# Altium integrated library ST Memory EPROM 1-16 Mbit.IntLib: 1093 symbols (part 17 of 19)
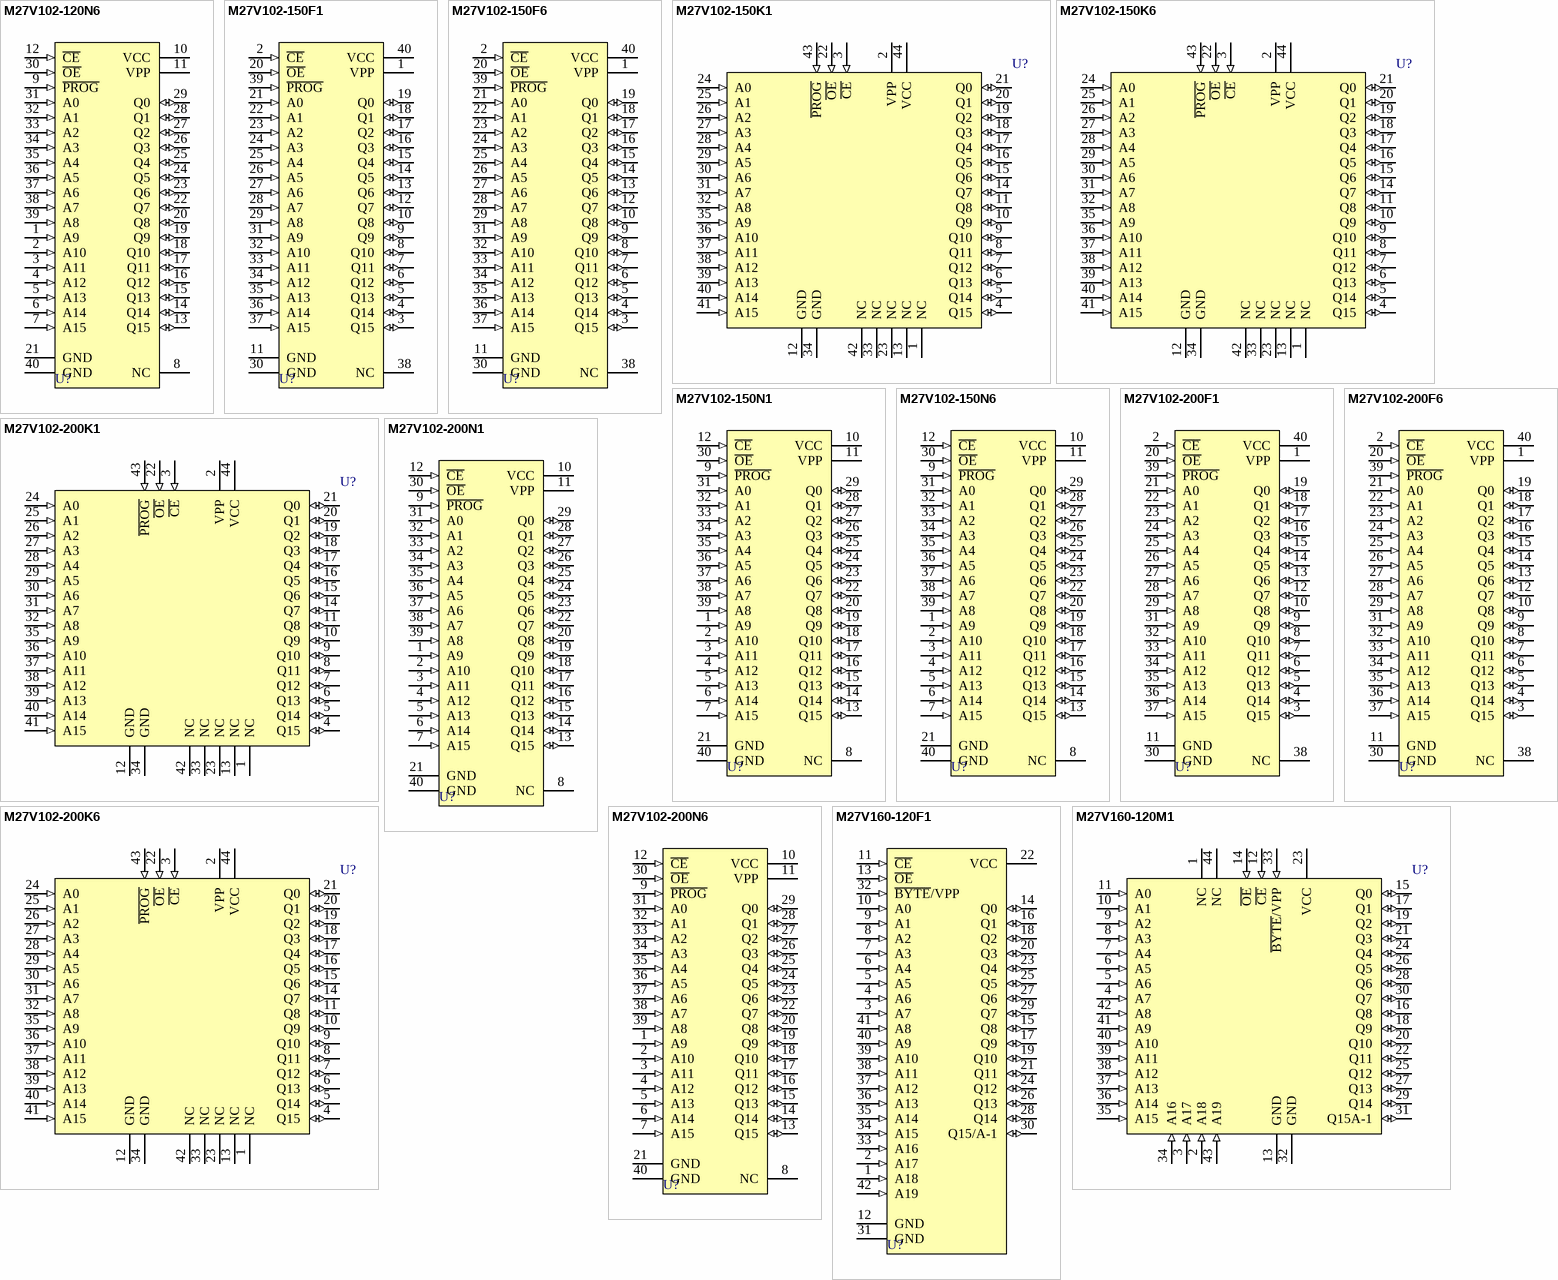
[diagram p73: symbols M27V102-120N6 to M27V160-120M1]

## M27V102-150K6
designator U?
1 Mbit (64Kb x 16) Low-Voltage UV EPROM and OTP EPROM; Published: 24-Aug-2001; LatestRevisionDate: 17-Jul-2002; LatestRevisionNote: Re-released for DXP Platform.; DatasheetDocument: May-1998; PackageDocument: Jun-1998; PackageReference: PLCC44; Publisher: Altium Limited; Code_IPC: PLCC-44
footprint PLCC44 (Leaded Chip Carrier; 44 Leads; Body 16.5 x 16.5 mm)
pins: 1 NC, 2 VPP (power), 3 ~{CE} (in), 4 Q15 (io), 5 Q14 (io), 6 Q13 (io), 7 Q12 (io), 8 Q11 (io), 9 Q10 (io), 10 Q9 (io), 11 Q8 (io), 12 GND (power), 13 NC, 14 Q7 (io), 15 Q6 (io), 16 Q5 (io), 17 Q4 (io), 18 Q3 (io), 19 Q2 (io), 20 Q1 (io), 21 Q0 (io), 22 ~{OE} (in), 23 NC, 24 A0 (in), 25 A1 (in), 26 A2 (in), 27 A3 (in), 28 A4 (in), 29 A5 (in), 30 A6 (in), 31 A7 (in), 32 A8 (in), 33 NC, 34 GND (power), 35 A9 (in), 36 A10 (in), 37 A11 (in), 38 A12 (in), 39 A13 (in), 40 A14 (in), 41 A15 (in), 42 NC, 43 ~{PROG} (in), 44 VCC (power)

## M27V102-150N1
designator U?
1 Mbit (64Kb x 16) Low-Voltage UV EPROM and OTP EPROM; Published: 24-Aug-2001; LatestRevisionDate: 17-Jul-2002; LatestRevisionNote: Re-released for DXP Platform.; DatasheetDocument: May-1998; PackageDocument: Jul-1998; PackageReference: TSOP40A; Publisher: Altium Limited; Code_JEDEC: MO-142-CD
footprint TSOP40A (Shrink Small Outline, Plastic, Thin; 40 Leads; Body Width 18.4 mm; Pitch 0.5 mm)
pins: 1 A9 (in), 2 A10 (in), 3 A11 (in), 4 A12 (in), 5 A13 (in), 6 A14 (in), 7 A15 (in), 8 NC, 9 ~{PROG} (in), 10 VCC (power), 11 VPP (power), 12 ~{CE} (in), 13 Q15 (io), 14 Q14 (io), 15 Q13 (io), 16 Q12 (io), 17 Q11 (io), 18 Q10 (io), 19 Q9 (io), 20 Q8 (io), 21 GND (power), 22 Q7 (io), 23 Q6 (io), 24 Q5 (io), 25 Q4 (io), 26 Q3 (io), 27 Q2 (io), 28 Q1 (io), 29 Q0 (io), 30 ~{OE} (in), 31 A0 (in), 32 A1 (in), 33 A2 (in), 34 A3 (in), 35 A4 (in), 36 A5 (in), 37 A6 (in), 38 A7 (in), 39 A8 (in), 40 GND (power)

## M27V102-150N6
designator U?
1 Mbit (64Kb x 16) Low-Voltage UV EPROM and OTP EPROM; Published: 24-Aug-2001; LatestRevisionDate: 17-Jul-2002; LatestRevisionNote: Re-released for DXP Platform.; DatasheetDocument: May-1998; PackageDocument: Jul-1998; PackageReference: TSOP40A; Publisher: Altium Limited; Code_JEDEC: MO-142-CD
footprint TSOP40A (Shrink Small Outline, Plastic, Thin; 40 Leads; Body Width 18.4 mm; Pitch 0.5 mm)
pins: 1 A9 (in), 2 A10 (in), 3 A11 (in), 4 A12 (in), 5 A13 (in), 6 A14 (in), 7 A15 (in), 8 NC, 9 ~{PROG} (in), 10 VCC (power), 11 VPP (power), 12 ~{CE} (in), 13 Q15 (io), 14 Q14 (io), 15 Q13 (io), 16 Q12 (io), 17 Q11 (io), 18 Q10 (io), 19 Q9 (io), 20 Q8 (io), 21 GND (power), 22 Q7 (io), 23 Q6 (io), 24 Q5 (io), 25 Q4 (io), 26 Q3 (io), 27 Q2 (io), 28 Q1 (io), 29 Q0 (io), 30 ~{OE} (in), 31 A0 (in), 32 A1 (in), 33 A2 (in), 34 A3 (in), 35 A4 (in), 36 A5 (in), 37 A6 (in), 38 A7 (in), 39 A8 (in), 40 GND (power)

## M27V102-200F1
designator U?
1 Mbit (64Kb x 16) Low-Voltage UV EPROM and OTP EPROM; Published: 24-Aug-2001; LatestRevisionDate: 17-Jul-2002; LatestRevisionNote: Re-released for DXP Platform.; DatasheetDocument: May-1998; PackageReference: FDIP40W; Publisher: Altium Limited
footprint FDIP40W (Ceramic Frit-seal DIP, Window; 40 Leads; Row Spacing 15.24 mm; Pitch 2.54 mm)
pins: 1 VPP (power), 2 ~{CE} (in), 3 Q15 (io), 4 Q14 (io), 5 Q13 (io), 6 Q12 (io), 7 Q11 (io), 8 Q10 (io), 9 Q9 (io), 10 Q8 (io), 11 GND (power), 12 Q7 (io), 13 Q6 (io), 14 Q5 (io), 15 Q4 (io), 16 Q3 (io), 17 Q2 (io), 18 Q1 (io), 19 Q0 (io), 20 ~{OE} (in), 21 A0 (in), 22 A1 (in), 23 A2 (in), 24 A3 (in), 25 A4 (in), 26 A5 (in), 27 A6 (in), 28 A7 (in), 29 A8 (in), 30 GND (power), 31 A9 (in), 32 A10 (in), 33 A11 (in), 34 A12 (in), 35 A13 (in), 36 A14 (in), 37 A15 (in), 38 NC, 39 ~{PROG} (in), 40 VCC (power)

## M27V102-200F6
designator U?
1 Mbit (64Kb x 16) Low-Voltage UV EPROM and OTP EPROM; Published: 24-Aug-2001; LatestRevisionDate: 17-Jul-2002; LatestRevisionNote: Re-released for DXP Platform.; DatasheetDocument: May-1998; PackageReference: FDIP40W; Publisher: Altium Limited
footprint FDIP40W (Ceramic Frit-seal DIP, Window; 40 Leads; Row Spacing 15.24 mm; Pitch 2.54 mm)
pins: 1 VPP (power), 2 ~{CE} (in), 3 Q15 (io), 4 Q14 (io), 5 Q13 (io), 6 Q12 (io), 7 Q11 (io), 8 Q10 (io), 9 Q9 (io), 10 Q8 (io), 11 GND (power), 12 Q7 (io), 13 Q6 (io), 14 Q5 (io), 15 Q4 (io), 16 Q3 (io), 17 Q2 (io), 18 Q1 (io), 19 Q0 (io), 20 ~{OE} (in), 21 A0 (in), 22 A1 (in), 23 A2 (in), 24 A3 (in), 25 A4 (in), 26 A5 (in), 27 A6 (in), 28 A7 (in), 29 A8 (in), 30 GND (power), 31 A9 (in), 32 A10 (in), 33 A11 (in), 34 A12 (in), 35 A13 (in), 36 A14 (in), 37 A15 (in), 38 NC, 39 ~{PROG} (in), 40 VCC (power)

## M27V102-200K1
designator U?
1 Mbit (64Kb x 16) Low-Voltage UV EPROM and OTP EPROM; Published: 24-Aug-2001; LatestRevisionDate: 17-Jul-2002; LatestRevisionNote: Re-released for DXP Platform.; DatasheetDocument: May-1998; PackageDocument: Jun-1998; PackageReference: PLCC44; Publisher: Altium Limited; Code_IPC: PLCC-44
footprint PLCC44 (Leaded Chip Carrier; 44 Leads; Body 16.5 x 16.5 mm)
pins: 1 NC, 2 VPP (power), 3 ~{CE} (in), 4 Q15 (io), 5 Q14 (io), 6 Q13 (io), 7 Q12 (io), 8 Q11 (io), 9 Q10 (io), 10 Q9 (io), 11 Q8 (io), 12 GND (power), 13 NC, 14 Q7 (io), 15 Q6 (io), 16 Q5 (io), 17 Q4 (io), 18 Q3 (io), 19 Q2 (io), 20 Q1 (io), 21 Q0 (io), 22 ~{OE} (in), 23 NC, 24 A0 (in), 25 A1 (in), 26 A2 (in), 27 A3 (in), 28 A4 (in), 29 A5 (in), 30 A6 (in), 31 A7 (in), 32 A8 (in), 33 NC, 34 GND (power), 35 A9 (in), 36 A10 (in), 37 A11 (in), 38 A12 (in), 39 A13 (in), 40 A14 (in), 41 A15 (in), 42 NC, 43 ~{PROG} (in), 44 VCC (power)

## M27V102-200K6
designator U?
1 Mbit (64Kb x 16) Low-Voltage UV EPROM and OTP EPROM; Published: 24-Aug-2001; LatestRevisionDate: 17-Jul-2002; LatestRevisionNote: Re-released for DXP Platform.; DatasheetDocument: May-1998; PackageDocument: Jun-1998; PackageReference: PLCC44; Publisher: Altium Limited; Code_IPC: PLCC-44
footprint PLCC44 (Leaded Chip Carrier; 44 Leads; Body 16.5 x 16.5 mm)
pins: 1 NC, 2 VPP (power), 3 ~{CE} (in), 4 Q15 (io), 5 Q14 (io), 6 Q13 (io), 7 Q12 (io), 8 Q11 (io), 9 Q10 (io), 10 Q9 (io), 11 Q8 (io), 12 GND (power), 13 NC, 14 Q7 (io), 15 Q6 (io), 16 Q5 (io), 17 Q4 (io), 18 Q3 (io), 19 Q2 (io), 20 Q1 (io), 21 Q0 (io), 22 ~{OE} (in), 23 NC, 24 A0 (in), 25 A1 (in), 26 A2 (in), 27 A3 (in), 28 A4 (in), 29 A5 (in), 30 A6 (in), 31 A7 (in), 32 A8 (in), 33 NC, 34 GND (power), 35 A9 (in), 36 A10 (in), 37 A11 (in), 38 A12 (in), 39 A13 (in), 40 A14 (in), 41 A15 (in), 42 NC, 43 ~{PROG} (in), 44 VCC (power)

## M27V102-200N1
designator U?
1 Mbit (64Kb x 16) Low-Voltage UV EPROM and OTP EPROM; Published: 24-Aug-2001; LatestRevisionDate: 17-Jul-2002; LatestRevisionNote: Re-released for DXP Platform.; DatasheetDocument: May-1998; PackageDocument: Jul-1998; PackageReference: TSOP40A; Publisher: Altium Limited; Code_JEDEC: MO-142-CD
footprint TSOP40A (Shrink Small Outline, Plastic, Thin; 40 Leads; Body Width 18.4 mm; Pitch 0.5 mm)
pins: 1 A9 (in), 2 A10 (in), 3 A11 (in), 4 A12 (in), 5 A13 (in), 6 A14 (in), 7 A15 (in), 8 NC, 9 ~{PROG} (in), 10 VCC (power), 11 VPP (power), 12 ~{CE} (in), 13 Q15 (io), 14 Q14 (io), 15 Q13 (io), 16 Q12 (io), 17 Q11 (io), 18 Q10 (io), 19 Q9 (io), 20 Q8 (io), 21 GND (power), 22 Q7 (io), 23 Q6 (io), 24 Q5 (io), 25 Q4 (io), 26 Q3 (io), 27 Q2 (io), 28 Q1 (io), 29 Q0 (io), 30 ~{OE} (in), 31 A0 (in), 32 A1 (in), 33 A2 (in), 34 A3 (in), 35 A4 (in), 36 A5 (in), 37 A6 (in), 38 A7 (in), 39 A8 (in), 40 GND (power)

## M27V102-200N6
designator U?
1 Mbit (64Kb x 16) Low-Voltage UV EPROM and OTP EPROM; Published: 24-Aug-2001; LatestRevisionDate: 17-Jul-2002; LatestRevisionNote: Re-released for DXP Platform.; DatasheetDocument: May-1998; PackageDocument: Jul-1998; PackageReference: TSOP40A; Publisher: Altium Limited; Code_JEDEC: MO-142-CD
footprint TSOP40A (Shrink Small Outline, Plastic, Thin; 40 Leads; Body Width 18.4 mm; Pitch 0.5 mm)
pins: 1 A9 (in), 2 A10 (in), 3 A11 (in), 4 A12 (in), 5 A13 (in), 6 A14 (in), 7 A15 (in), 8 NC, 9 ~{PROG} (in), 10 VCC (power), 11 VPP (power), 12 ~{CE} (in), 13 Q15 (io), 14 Q14 (io), 15 Q13 (io), 16 Q12 (io), 17 Q11 (io), 18 Q10 (io), 19 Q9 (io), 20 Q8 (io), 21 GND (power), 22 Q7 (io), 23 Q6 (io), 24 Q5 (io), 25 Q4 (io), 26 Q3 (io), 27 Q2 (io), 28 Q1 (io), 29 Q0 (io), 30 ~{OE} (in), 31 A0 (in), 32 A1 (in), 33 A2 (in), 34 A3 (in), 35 A4 (in), 36 A5 (in), 37 A6 (in), 38 A7 (in), 39 A8 (in), 40 GND (power)

## M27V160-120F1
designator U?
16 Mbit (2Mb x 8 or 1Mb x 16) Low-Voltage UV EPROM and OTP EPROM; Published: 24-Aug-2001; LatestRevisionDate: 17-Jul-2002; LatestRevisionNote: Re-released for DXP Platform.; DatasheetDocument: Oct-1998; PackageReference: FDIP42W; Publisher: Altium Limited
footprint FDIP42W (Ceramic Frit-seal DIP, Window; 42 Leads; Row Spacing 15.24 mm; Pitch 2.54 mm)
pins: 1 A18 (in), 2 A17 (in), 3 A7 (in), 4 A6 (in), 5 A5 (in), 6 A4 (in), 7 A3 (in), 8 A2 (in), 9 A1 (in), 10 A0 (in), 11 ~{CE} (in), 12 GND (power), 13 ~{OE} (in), 14 Q0 (io), 15 Q8 (io), 16 Q1 (io), 17 Q9 (io), 18 Q2 (io), 19 Q10 (io), 20 Q3 (io), 21 Q11 (io), 22 VCC (power), 23 Q4 (io), 24 Q12 (io), 25 Q5 (io), 26 Q13 (io), 27 Q6 (io), 28 Q14 (io), 29 Q7 (io), 30 Q15/A-1 (io), 31 GND (power), 32 ~{BYTE}/VPP (in), 33 A16 (in), 34 A15 (in), 35 A14 (in), 36 A13 (in), 37 A12 (in), 38 A11 (in), 39 A10 (in), 40 A9 (in), 41 A8 (in), 42 A19 (in)

## M27V160-120M1
designator U?
16 Mbit (2Mb x 8 or 1Mb x 16) Low-Voltage UV EPROM and OTP EPROM; Published: 24-Aug-2001; LatestRevisionDate: 17-Jul-2002; LatestRevisionNote: Re-released for DXP Platform.; DatasheetDocument: Oct-1998; PackageReference: SO44; Publisher: Altium Limited
footprint SO44 (Small Outline, Plastic; 44 Leads; Body Width 13.3 mm; Pitch 1.27 mm)
pins: 1 NC, 2 A18 (in), 3 A17 (in), 4 A7 (in), 5 A6 (in), 6 A5 (in), 7 A4 (in), 8 A3 (in), 9 A2 (in), 10 A1 (in), 11 A0 (in), 12 ~{CE} (in), 13 GND (power), 14 ~{OE} (in), 15 Q0 (io), 16 Q8 (io), 17 Q1 (io), 18 Q9 (io), 19 Q2 (io), 20 Q10 (io), 21 Q3 (io), 22 Q11 (io), 23 VCC (power), 24 Q4 (io), 25 Q12 (io), 26 Q5 (io), 27 Q13 (io), 28 Q6 (io), 29 Q14 (io), 30 Q7 (io), 31 Q15A-1 (io), 32 GND (power), 33 ~{BYTE}/VPP (in), 34 A16 (in), 35 A15 (in), 36 A14 (in), 37 A13 (in), 38 A12 (in), 39 A11 (in), 40 A10 (in), 41 A9 (in), 42 A8 (in), 43 A19 (in), 44 NC

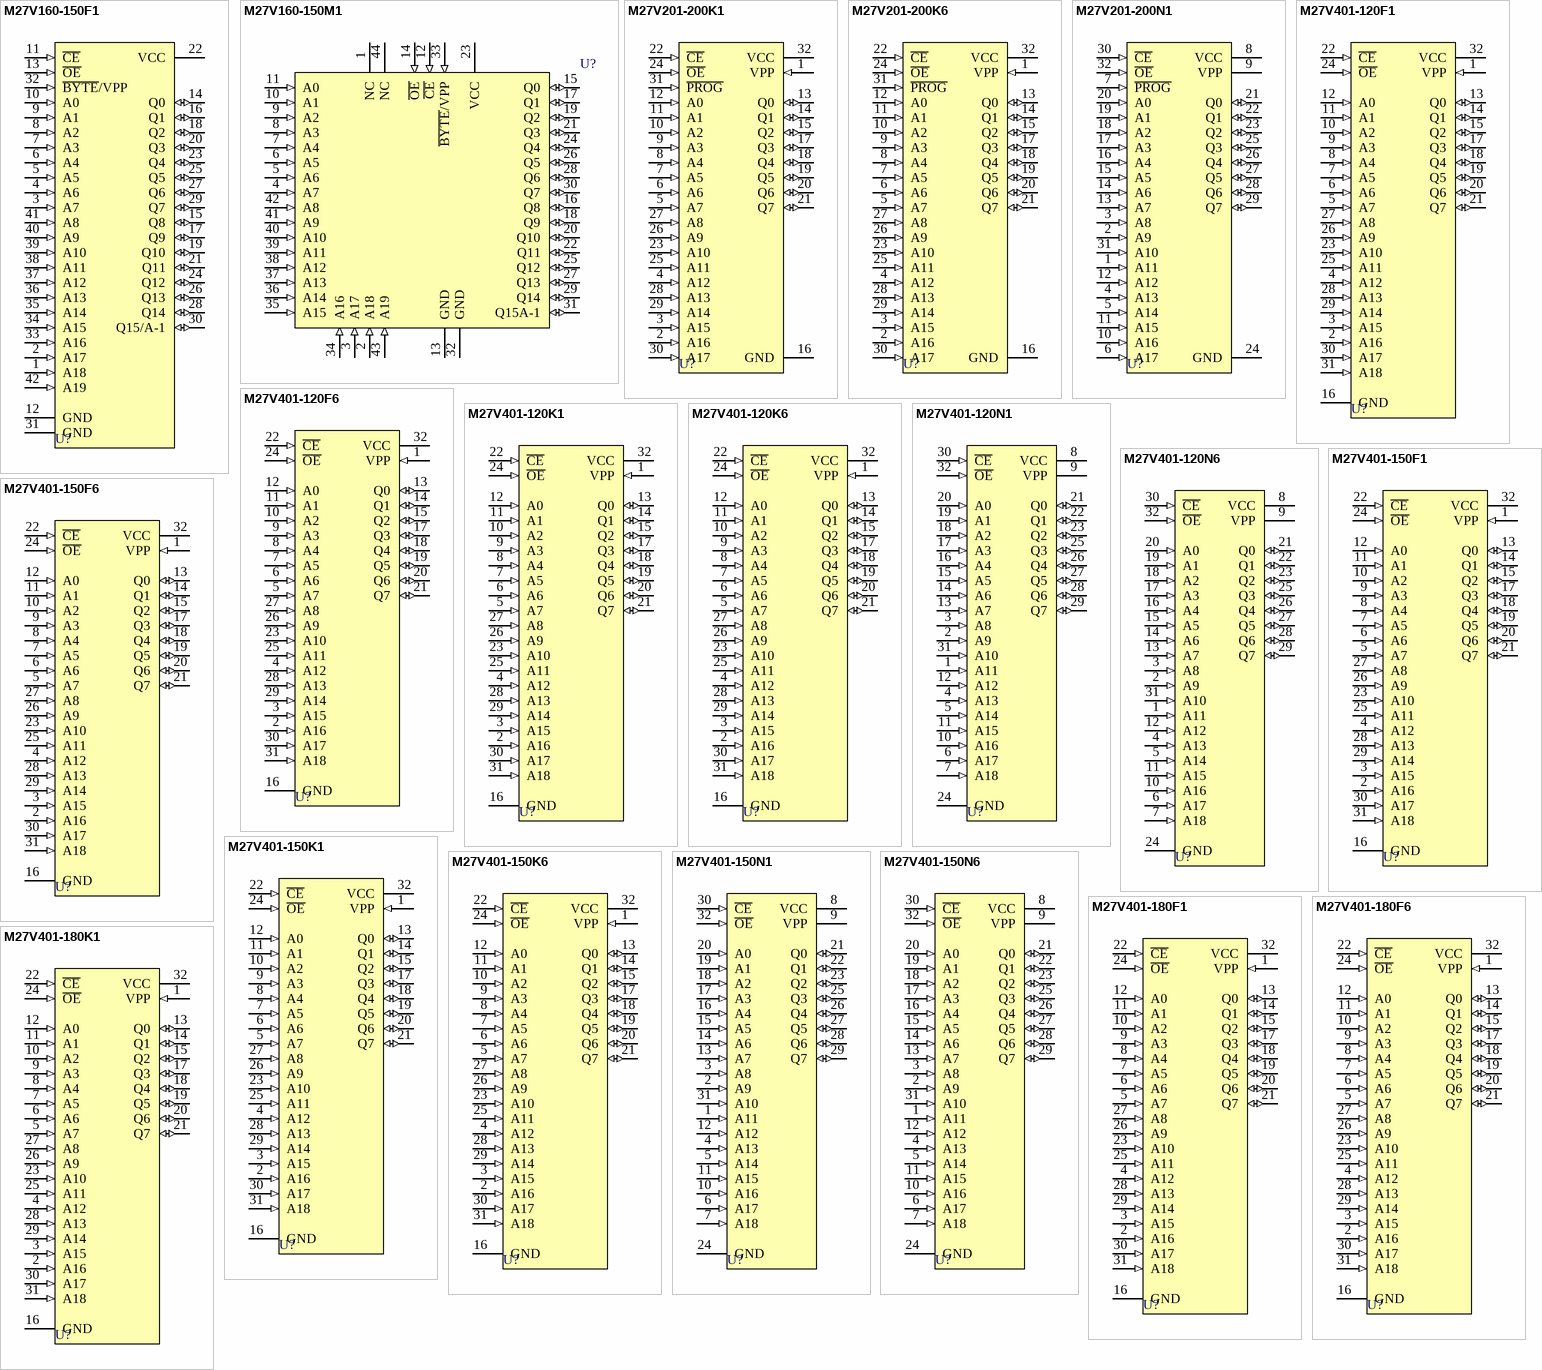
[diagram p51: symbols M27V160-150F1 to M27V401-180K1]

## M27V160-150F1
designator U?
16 Mbit (2Mb x 8 or 1Mb x 16) Low-Voltage UV EPROM and OTP EPROM; Published: 24-Aug-2001; LatestRevisionDate: 17-Jul-2002; LatestRevisionNote: Re-released for DXP Platform.; DatasheetDocument: Oct-1998; PackageReference: FDIP42W; Publisher: Altium Limited
footprint FDIP42W (Ceramic Frit-seal DIP, Window; 42 Leads; Row Spacing 15.24 mm; Pitch 2.54 mm)
pins: 1 A18 (in), 2 A17 (in), 3 A7 (in), 4 A6 (in), 5 A5 (in), 6 A4 (in), 7 A3 (in), 8 A2 (in), 9 A1 (in), 10 A0 (in), 11 ~{CE} (in), 12 GND (power), 13 ~{OE} (in), 14 Q0 (io), 15 Q8 (io), 16 Q1 (io), 17 Q9 (io), 18 Q2 (io), 19 Q10 (io), 20 Q3 (io), 21 Q11 (io), 22 VCC (power), 23 Q4 (io), 24 Q12 (io), 25 Q5 (io), 26 Q13 (io), 27 Q6 (io), 28 Q14 (io), 29 Q7 (io), 30 Q15/A-1 (io), 31 GND (power), 32 ~{BYTE}/VPP (in), 33 A16 (in), 34 A15 (in), 35 A14 (in), 36 A13 (in), 37 A12 (in), 38 A11 (in), 39 A10 (in), 40 A9 (in), 41 A8 (in), 42 A19 (in)

## M27V160-150M1
designator U?
16 Mbit (2Mb x 8 or 1Mb x 16) Low-Voltage UV EPROM and OTP EPROM; Published: 24-Aug-2001; LatestRevisionDate: 17-Jul-2002; LatestRevisionNote: Re-released for DXP Platform.; DatasheetDocument: Oct-1998; PackageReference: SO44; Publisher: Altium Limited
footprint SO44 (Small Outline, Plastic; 44 Leads; Body Width 13.3 mm; Pitch 1.27 mm)
pins: 1 NC, 2 A18 (in), 3 A17 (in), 4 A7 (in), 5 A6 (in), 6 A5 (in), 7 A4 (in), 8 A3 (in), 9 A2 (in), 10 A1 (in), 11 A0 (in), 12 ~{CE} (in), 13 GND (power), 14 ~{OE} (in), 15 Q0 (io), 16 Q8 (io), 17 Q1 (io), 18 Q9 (io), 19 Q2 (io), 20 Q10 (io), 21 Q3 (io), 22 Q11 (io), 23 VCC (power), 24 Q4 (io), 25 Q12 (io), 26 Q5 (io), 27 Q13 (io), 28 Q6 (io), 29 Q14 (io), 30 Q7 (io), 31 Q15A-1 (io), 32 GND (power), 33 ~{BYTE}/VPP (in), 34 A16 (in), 35 A15 (in), 36 A14 (in), 37 A13 (in), 38 A12 (in), 39 A11 (in), 40 A10 (in), 41 A9 (in), 42 A8 (in), 43 A19 (in), 44 NC

## M27V201-200K1
designator U?
2 Mbit (256Kb x 8) Low-Voltage UV EPROM and OTP EPROM; Published: 24-Aug-2001; LatestRevisionDate: 17-Jul-2002; LatestRevisionNote: Re-released for DXP Platform.; DatasheetDocument: May-1998; PackageDocument: Jun-1998; PackageReference: PLCC32; Publisher: Altium Limited; Code_JEDEC: MS-016-AE; Code_IPC: PLCC/R-32
footprint PLCC32 (Leaded Chip Carrier; 32 Leads; Body 11.4 x 14 mm)
pins: 1 VPP (in), 2 A16 (in), 3 A15 (in), 4 A12 (in), 5 A7 (in), 6 A6 (in), 7 A5 (in), 8 A4 (in), 9 A3 (in), 10 A2 (in), 11 A1 (in), 12 A0 (in), 13 Q0 (io), 14 Q1 (io), 15 Q2 (io), 16 GND (power), 17 Q3 (io), 18 Q4 (io), 19 Q5 (io), 20 Q6 (io), 21 Q7 (io), 22 ~{CE} (in), 23 A10 (in), 24 ~{OE} (in), 25 A11 (in), 26 A9 (in), 27 A8 (in), 28 A13 (in), 29 A14 (in), 30 A17 (in), 31 ~{PROG} (in), 32 VCC (power)

## M27V201-200K6
designator U?
2 Mbit (256Kb x 8) Low-Voltage UV EPROM and OTP EPROM; Published: 24-Aug-2001; LatestRevisionDate: 17-Jul-2002; LatestRevisionNote: Re-released for DXP Platform.; DatasheetDocument: May-1998; PackageDocument: Jun-1998; PackageReference: PLCC32; Publisher: Altium Limited; Code_JEDEC: MS-016-AE; Code_IPC: PLCC/R-32
footprint PLCC32 (Leaded Chip Carrier; 32 Leads; Body 11.4 x 14 mm)
pins: 1 VPP (in), 2 A16 (in), 3 A15 (in), 4 A12 (in), 5 A7 (in), 6 A6 (in), 7 A5 (in), 8 A4 (in), 9 A3 (in), 10 A2 (in), 11 A1 (in), 12 A0 (in), 13 Q0 (io), 14 Q1 (io), 15 Q2 (io), 16 GND (power), 17 Q3 (io), 18 Q4 (io), 19 Q5 (io), 20 Q6 (io), 21 Q7 (io), 22 ~{CE} (in), 23 A10 (in), 24 ~{OE} (in), 25 A11 (in), 26 A9 (in), 27 A8 (in), 28 A13 (in), 29 A14 (in), 30 A17 (in), 31 ~{PROG} (in), 32 VCC (power)

## M27V201-200N1
designator U?
2 Mbit (256Kb x 8) Low-Voltage UV EPROM and OTP EPROM; Published: 24-Aug-2001; LatestRevisionDate: 26-May-2004; LatestRevisionNote: Pad length of PCB Footprint increased.; DatasheetDocument: May-1998; PackageDocument: Mar-1999; PackageReference: TSOP32; Publisher: Altium Limited; Code_JEDEC: MO-142-BD
footprint TSOP32 (Shrink Small Outline, Plastic, Thin; 32 Leads; Body Width 18.4 mm; Pitch 0.5 mm)
pins: 1 A11 (in), 2 A9 (in), 3 A8 (in), 4 A13 (in), 5 A14 (in), 6 A17 (in), 7 ~{PROG} (in), 8 VCC (power), 9 VPP (power), 10 A16 (in), 11 A15 (in), 12 A12 (in), 13 A7 (in), 14 A6 (in), 15 A5 (in), 16 A4 (in), 17 A3 (in), 18 A2 (in), 19 A1 (in), 20 A0 (in), 21 Q0 (io), 22 Q1 (io), 23 Q2 (io), 24 GND (power), 25 Q3 (io), 26 Q4 (io), 27 Q5 (io), 28 Q6 (io), 29 Q7 (io), 30 ~{CE} (in), 31 A10 (in), 32 ~{OE} (in)

## M27V401-120F1
designator U?
4 Mbit (512Kb x 8) Low-Voltage UV EPROM and OTP EPROM; Published: 24-Aug-2001; LatestRevisionDate: 17-Jul-2002; LatestRevisionNote: Re-released for DXP Platform.; DatasheetDocument: May-1998; PackageReference: FDIP32W; Publisher: Altium Limited
footprint FDIP32W (Ceramic Frit-seal DIP, Window; 32 Leads; Row Spacing 15.24 mm; Pitch 2.54 mm)
pins: 1 VPP (in), 2 A16 (in), 3 A15 (in), 4 A12 (in), 5 A7 (in), 6 A6 (in), 7 A5 (in), 8 A4 (in), 9 A3 (in), 10 A2 (in), 11 A1 (in), 12 A0 (in), 13 Q0 (io), 14 Q1 (io), 15 Q2 (io), 16 GND (power), 17 Q3 (io), 18 Q4 (io), 19 Q5 (io), 20 Q6 (io), 21 Q7 (io), 22 ~{CE} (in), 23 A10 (in), 24 ~{OE} (in), 25 A11 (in), 26 A9 (in), 27 A8 (in), 28 A13 (in), 29 A14 (in), 30 A17 (in), 31 A18 (in), 32 VCC (power)

## M27V401-120F6
designator U?
4 Mbit (512Kb x 8) Low-Voltage UV EPROM and OTP EPROM; Published: 24-Aug-2001; LatestRevisionDate: 17-Jul-2002; LatestRevisionNote: Re-released for DXP Platform.; DatasheetDocument: May-1998; PackageReference: FDIP32W; Publisher: Altium Limited
footprint FDIP32W (Ceramic Frit-seal DIP, Window; 32 Leads; Row Spacing 15.24 mm; Pitch 2.54 mm)
pins: 1 VPP (in), 2 A16 (in), 3 A15 (in), 4 A12 (in), 5 A7 (in), 6 A6 (in), 7 A5 (in), 8 A4 (in), 9 A3 (in), 10 A2 (in), 11 A1 (in), 12 A0 (in), 13 Q0 (io), 14 Q1 (io), 15 Q2 (io), 16 GND (power), 17 Q3 (io), 18 Q4 (io), 19 Q5 (io), 20 Q6 (io), 21 Q7 (io), 22 ~{CE} (in), 23 A10 (in), 24 ~{OE} (in), 25 A11 (in), 26 A9 (in), 27 A8 (in), 28 A13 (in), 29 A14 (in), 30 A17 (in), 31 A18 (in), 32 VCC (power)

## M27V401-120K1
designator U?
4 Mbit (512Kb x 8) Low-Voltage UV EPROM and OTP EPROM; Published: 24-Aug-2001; LatestRevisionDate: 17-Jul-2002; LatestRevisionNote: Re-released for DXP Platform.; DatasheetDocument: May-1998; PackageDocument: Jun-1998; PackageReference: PLCC32; Publisher: Altium Limited; Code_JEDEC: MS-016-AE; Code_IPC: PLCC/R-32
footprint PLCC32 (Leaded Chip Carrier; 32 Leads; Body 11.4 x 14 mm)
pins: 1 VPP (in), 2 A16 (in), 3 A15 (in), 4 A12 (in), 5 A7 (in), 6 A6 (in), 7 A5 (in), 8 A4 (in), 9 A3 (in), 10 A2 (in), 11 A1 (in), 12 A0 (in), 13 Q0 (io), 14 Q1 (io), 15 Q2 (io), 16 GND (power), 17 Q3 (io), 18 Q4 (io), 19 Q5 (io), 20 Q6 (io), 21 Q7 (io), 22 ~{CE} (in), 23 A10 (in), 24 ~{OE} (in), 25 A11 (in), 26 A9 (in), 27 A8 (in), 28 A13 (in), 29 A14 (in), 30 A17 (in), 31 A18 (in), 32 VCC (power)

## M27V401-120K6
designator U?
4 Mbit (512Kb x 8) Low-Voltage UV EPROM and OTP EPROM; Published: 24-Aug-2001; LatestRevisionDate: 17-Jul-2002; LatestRevisionNote: Re-released for DXP Platform.; DatasheetDocument: May-1998; PackageDocument: Jun-1998; PackageReference: PLCC32; Publisher: Altium Limited; Code_JEDEC: MS-016-AE; Code_IPC: PLCC/R-32
footprint PLCC32 (Leaded Chip Carrier; 32 Leads; Body 11.4 x 14 mm)
pins: 1 VPP (in), 2 A16 (in), 3 A15 (in), 4 A12 (in), 5 A7 (in), 6 A6 (in), 7 A5 (in), 8 A4 (in), 9 A3 (in), 10 A2 (in), 11 A1 (in), 12 A0 (in), 13 Q0 (io), 14 Q1 (io), 15 Q2 (io), 16 GND (power), 17 Q3 (io), 18 Q4 (io), 19 Q5 (io), 20 Q6 (io), 21 Q7 (io), 22 ~{CE} (in), 23 A10 (in), 24 ~{OE} (in), 25 A11 (in), 26 A9 (in), 27 A8 (in), 28 A13 (in), 29 A14 (in), 30 A17 (in), 31 A18 (in), 32 VCC (power)

## M27V401-120N1
designator U?
4 Mbit (512Kb x 8) Low-Voltage UV EPROM and OTP EPROM; Published: 24-Aug-2001; LatestRevisionDate: 26-May-2004; LatestRevisionNote: Row spacing of PCB Footprint reduced.; DatasheetDocument: May-1998; PackageDocument: Mar-1999; PackageReference: TSOP32; Publisher: Altium Limited; Code_JEDEC: MO-142-BD
footprint TSOP32 (Shrink Small Outline, Plastic, Thin; 32 Leads; Body Width 18.4 mm; Pitch 0.5 mm)
pins: 1 A11 (in), 2 A9 (in), 3 A8 (in), 4 A13 (in), 5 A14 (in), 6 A17 (in), 7 A18 (in), 8 VCC (power), 9 VPP (power), 10 A16 (in), 11 A15 (in), 12 A12 (in), 13 A7 (in), 14 A6 (in), 15 A5 (in), 16 A4 (in), 17 A3 (in), 18 A2 (in), 19 A1 (in), 20 A0 (in), 21 Q0 (io), 22 Q1 (io), 23 Q2 (io), 24 GND (power), 25 Q3 (io), 26 Q4 (io), 27 Q5 (io), 28 Q6 (io), 29 Q7 (io), 30 ~{CE} (in), 31 A10 (in), 32 ~{OE} (in)

## M27V401-120N6
designator U?
4 Mbit (512Kb x 8) Low-Voltage UV EPROM and OTP EPROM; Published: 24-Aug-2001; LatestRevisionDate: 26-May-2004; LatestRevisionNote: Row spacing of PCB Footprint reduced.; DatasheetDocument: May-1998; PackageDocument: Mar-1999; PackageReference: TSOP32; Publisher: Altium Limited; Code_JEDEC: MO-142-BD
footprint TSOP32 (Shrink Small Outline, Plastic, Thin; 32 Leads; Body Width 18.4 mm; Pitch 0.5 mm)
pins: 1 A11 (in), 2 A9 (in), 3 A8 (in), 4 A13 (in), 5 A14 (in), 6 A17 (in), 7 A18 (in), 8 VCC (power), 9 VPP (power), 10 A16 (in), 11 A15 (in), 12 A12 (in), 13 A7 (in), 14 A6 (in), 15 A5 (in), 16 A4 (in), 17 A3 (in), 18 A2 (in), 19 A1 (in), 20 A0 (in), 21 Q0 (io), 22 Q1 (io), 23 Q2 (io), 24 GND (power), 25 Q3 (io), 26 Q4 (io), 27 Q5 (io), 28 Q6 (io), 29 Q7 (io), 30 ~{CE} (in), 31 A10 (in), 32 ~{OE} (in)

## M27V401-150F1
designator U?
4 Mbit (512Kb x 8) Low-Voltage UV EPROM and OTP EPROM; Published: 24-Aug-2001; LatestRevisionDate: 17-Jul-2002; LatestRevisionNote: Re-released for DXP Platform.; DatasheetDocument: May-1998; PackageReference: FDIP32W; Publisher: Altium Limited
footprint FDIP32W (Ceramic Frit-seal DIP, Window; 32 Leads; Row Spacing 15.24 mm; Pitch 2.54 mm)
pins: 1 VPP (in), 2 A16 (in), 3 A15 (in), 4 A12 (in), 5 A7 (in), 6 A6 (in), 7 A5 (in), 8 A4 (in), 9 A3 (in), 10 A2 (in), 11 A1 (in), 12 A0 (in), 13 Q0 (io), 14 Q1 (io), 15 Q2 (io), 16 GND (power), 17 Q3 (io), 18 Q4 (io), 19 Q5 (io), 20 Q6 (io), 21 Q7 (io), 22 ~{CE} (in), 23 A10 (in), 24 ~{OE} (in), 25 A11 (in), 26 A9 (in), 27 A8 (in), 28 A13 (in), 29 A14 (in), 30 A17 (in), 31 A18 (in), 32 VCC (power)

## M27V401-150F6
designator U?
4 Mbit (512Kb x 8) Low-Voltage UV EPROM and OTP EPROM; Published: 24-Aug-2001; LatestRevisionDate: 17-Jul-2002; LatestRevisionNote: Re-released for DXP Platform.; DatasheetDocument: May-1998; PackageReference: FDIP32W; Publisher: Altium Limited
footprint FDIP32W (Ceramic Frit-seal DIP, Window; 32 Leads; Row Spacing 15.24 mm; Pitch 2.54 mm)
pins: 1 VPP (in), 2 A16 (in), 3 A15 (in), 4 A12 (in), 5 A7 (in), 6 A6 (in), 7 A5 (in), 8 A4 (in), 9 A3 (in), 10 A2 (in), 11 A1 (in), 12 A0 (in), 13 Q0 (io), 14 Q1 (io), 15 Q2 (io), 16 GND (power), 17 Q3 (io), 18 Q4 (io), 19 Q5 (io), 20 Q6 (io), 21 Q7 (io), 22 ~{CE} (in), 23 A10 (in), 24 ~{OE} (in), 25 A11 (in), 26 A9 (in), 27 A8 (in), 28 A13 (in), 29 A14 (in), 30 A17 (in), 31 A18 (in), 32 VCC (power)

## M27V401-150K1
designator U?
4 Mbit (512Kb x 8) Low-Voltage UV EPROM and OTP EPROM; Published: 24-Aug-2001; LatestRevisionDate: 17-Jul-2002; LatestRevisionNote: Re-released for DXP Platform.; DatasheetDocument: May-1998; PackageDocument: Jun-1998; PackageReference: PLCC32; Publisher: Altium Limited; Code_JEDEC: MS-016-AE; Code_IPC: PLCC/R-32
footprint PLCC32 (Leaded Chip Carrier; 32 Leads; Body 11.4 x 14 mm)
pins: 1 VPP (in), 2 A16 (in), 3 A15 (in), 4 A12 (in), 5 A7 (in), 6 A6 (in), 7 A5 (in), 8 A4 (in), 9 A3 (in), 10 A2 (in), 11 A1 (in), 12 A0 (in), 13 Q0 (io), 14 Q1 (io), 15 Q2 (io), 16 GND (power), 17 Q3 (io), 18 Q4 (io), 19 Q5 (io), 20 Q6 (io), 21 Q7 (io), 22 ~{CE} (in), 23 A10 (in), 24 ~{OE} (in), 25 A11 (in), 26 A9 (in), 27 A8 (in), 28 A13 (in), 29 A14 (in), 30 A17 (in), 31 A18 (in), 32 VCC (power)

## M27V401-150K6
designator U?
4 Mbit (512Kb x 8) Low-Voltage UV EPROM and OTP EPROM; Published: 24-Aug-2001; LatestRevisionDate: 17-Jul-2002; LatestRevisionNote: Re-released for DXP Platform.; DatasheetDocument: May-1998; PackageDocument: Jun-1998; PackageReference: PLCC32; Publisher: Altium Limited; Code_JEDEC: MS-016-AE; Code_IPC: PLCC/R-32
footprint PLCC32 (Leaded Chip Carrier; 32 Leads; Body 11.4 x 14 mm)
pins: 1 VPP (in), 2 A16 (in), 3 A15 (in), 4 A12 (in), 5 A7 (in), 6 A6 (in), 7 A5 (in), 8 A4 (in), 9 A3 (in), 10 A2 (in), 11 A1 (in), 12 A0 (in), 13 Q0 (io), 14 Q1 (io), 15 Q2 (io), 16 GND (power), 17 Q3 (io), 18 Q4 (io), 19 Q5 (io), 20 Q6 (io), 21 Q7 (io), 22 ~{CE} (in), 23 A10 (in), 24 ~{OE} (in), 25 A11 (in), 26 A9 (in), 27 A8 (in), 28 A13 (in), 29 A14 (in), 30 A17 (in), 31 A18 (in), 32 VCC (power)

## M27V401-150N1
designator U?
4 Mbit (512Kb x 8) Low-Voltage UV EPROM and OTP EPROM; Published: 24-Aug-2001; LatestRevisionDate: 26-May-2004; LatestRevisionNote: Row spacing of PCB Footprint reduced.; DatasheetDocument: May-1998; PackageDocument: Mar-1999; PackageReference: TSOP32; Publisher: Altium Limited; Code_JEDEC: MO-142-BD
footprint TSOP32 (Shrink Small Outline, Plastic, Thin; 32 Leads; Body Width 18.4 mm; Pitch 0.5 mm)
pins: 1 A11 (in), 2 A9 (in), 3 A8 (in), 4 A13 (in), 5 A14 (in), 6 A17 (in), 7 A18 (in), 8 VCC (power), 9 VPP (power), 10 A16 (in), 11 A15 (in), 12 A12 (in), 13 A7 (in), 14 A6 (in), 15 A5 (in), 16 A4 (in), 17 A3 (in), 18 A2 (in), 19 A1 (in), 20 A0 (in), 21 Q0 (io), 22 Q1 (io), 23 Q2 (io), 24 GND (power), 25 Q3 (io), 26 Q4 (io), 27 Q5 (io), 28 Q6 (io), 29 Q7 (io), 30 ~{CE} (in), 31 A10 (in), 32 ~{OE} (in)

## M27V401-150N6
designator U?
4 Mbit (512Kb x 8) Low-Voltage UV EPROM and OTP EPROM; Published: 24-Aug-2001; LatestRevisionDate: 26-May-2004; LatestRevisionNote: Row spacing of PCB Footprint reduced.; DatasheetDocument: May-1998; PackageDocument: Mar-1999; PackageReference: TSOP32; Publisher: Altium Limited; Code_JEDEC: MO-142-BD
footprint TSOP32 (Shrink Small Outline, Plastic, Thin; 32 Leads; Body Width 18.4 mm; Pitch 0.5 mm)
pins: 1 A11 (in), 2 A9 (in), 3 A8 (in), 4 A13 (in), 5 A14 (in), 6 A17 (in), 7 A18 (in), 8 VCC (power), 9 VPP (power), 10 A16 (in), 11 A15 (in), 12 A12 (in), 13 A7 (in), 14 A6 (in), 15 A5 (in), 16 A4 (in), 17 A3 (in), 18 A2 (in), 19 A1 (in), 20 A0 (in), 21 Q0 (io), 22 Q1 (io), 23 Q2 (io), 24 GND (power), 25 Q3 (io), 26 Q4 (io), 27 Q5 (io), 28 Q6 (io), 29 Q7 (io), 30 ~{CE} (in), 31 A10 (in), 32 ~{OE} (in)

## M27V401-180F1
designator U?
4 Mbit (512Kb x 8) Low-Voltage UV EPROM and OTP EPROM; Published: 24-Aug-2001; LatestRevisionDate: 17-Jul-2002; LatestRevisionNote: Re-released for DXP Platform.; DatasheetDocument: May-1998; PackageReference: FDIP32W; Publisher: Altium Limited
footprint FDIP32W (Ceramic Frit-seal DIP, Window; 32 Leads; Row Spacing 15.24 mm; Pitch 2.54 mm)
pins: 1 VPP (in), 2 A16 (in), 3 A15 (in), 4 A12 (in), 5 A7 (in), 6 A6 (in), 7 A5 (in), 8 A4 (in), 9 A3 (in), 10 A2 (in), 11 A1 (in), 12 A0 (in), 13 Q0 (io), 14 Q1 (io), 15 Q2 (io), 16 GND (power), 17 Q3 (io), 18 Q4 (io), 19 Q5 (io), 20 Q6 (io), 21 Q7 (io), 22 ~{CE} (in), 23 A10 (in), 24 ~{OE} (in), 25 A11 (in), 26 A9 (in), 27 A8 (in), 28 A13 (in), 29 A14 (in), 30 A17 (in), 31 A18 (in), 32 VCC (power)

## M27V401-180F6
designator U?
4 Mbit (512Kb x 8) Low-Voltage UV EPROM and OTP EPROM; Published: 24-Aug-2001; LatestRevisionDate: 17-Jul-2002; LatestRevisionNote: Re-released for DXP Platform.; DatasheetDocument: May-1998; PackageReference: FDIP32W; Publisher: Altium Limited
footprint FDIP32W (Ceramic Frit-seal DIP, Window; 32 Leads; Row Spacing 15.24 mm; Pitch 2.54 mm)
pins: 1 VPP (in), 2 A16 (in), 3 A15 (in), 4 A12 (in), 5 A7 (in), 6 A6 (in), 7 A5 (in), 8 A4 (in), 9 A3 (in), 10 A2 (in), 11 A1 (in), 12 A0 (in), 13 Q0 (io), 14 Q1 (io), 15 Q2 (io), 16 GND (power), 17 Q3 (io), 18 Q4 (io), 19 Q5 (io), 20 Q6 (io), 21 Q7 (io), 22 ~{CE} (in), 23 A10 (in), 24 ~{OE} (in), 25 A11 (in), 26 A9 (in), 27 A8 (in), 28 A13 (in), 29 A14 (in), 30 A17 (in), 31 A18 (in), 32 VCC (power)

## M27V401-180K1
designator U?
4 Mbit (512Kb x 8) Low-Voltage UV EPROM and OTP EPROM; Published: 24-Aug-2001; LatestRevisionDate: 17-Jul-2002; LatestRevisionNote: Re-released for DXP Platform.; DatasheetDocument: May-1998; PackageDocument: Jun-1998; PackageReference: PLCC32; Publisher: Altium Limited; Code_JEDEC: MS-016-AE; Code_IPC: PLCC/R-32
footprint PLCC32 (Leaded Chip Carrier; 32 Leads; Body 11.4 x 14 mm)
pins: 1 VPP (in), 2 A16 (in), 3 A15 (in), 4 A12 (in), 5 A7 (in), 6 A6 (in), 7 A5 (in), 8 A4 (in), 9 A3 (in), 10 A2 (in), 11 A1 (in), 12 A0 (in), 13 Q0 (io), 14 Q1 (io), 15 Q2 (io), 16 GND (power), 17 Q3 (io), 18 Q4 (io), 19 Q5 (io), 20 Q6 (io), 21 Q7 (io), 22 ~{CE} (in), 23 A10 (in), 24 ~{OE} (in), 25 A11 (in), 26 A9 (in), 27 A8 (in), 28 A13 (in), 29 A14 (in), 30 A17 (in), 31 A18 (in), 32 VCC (power)

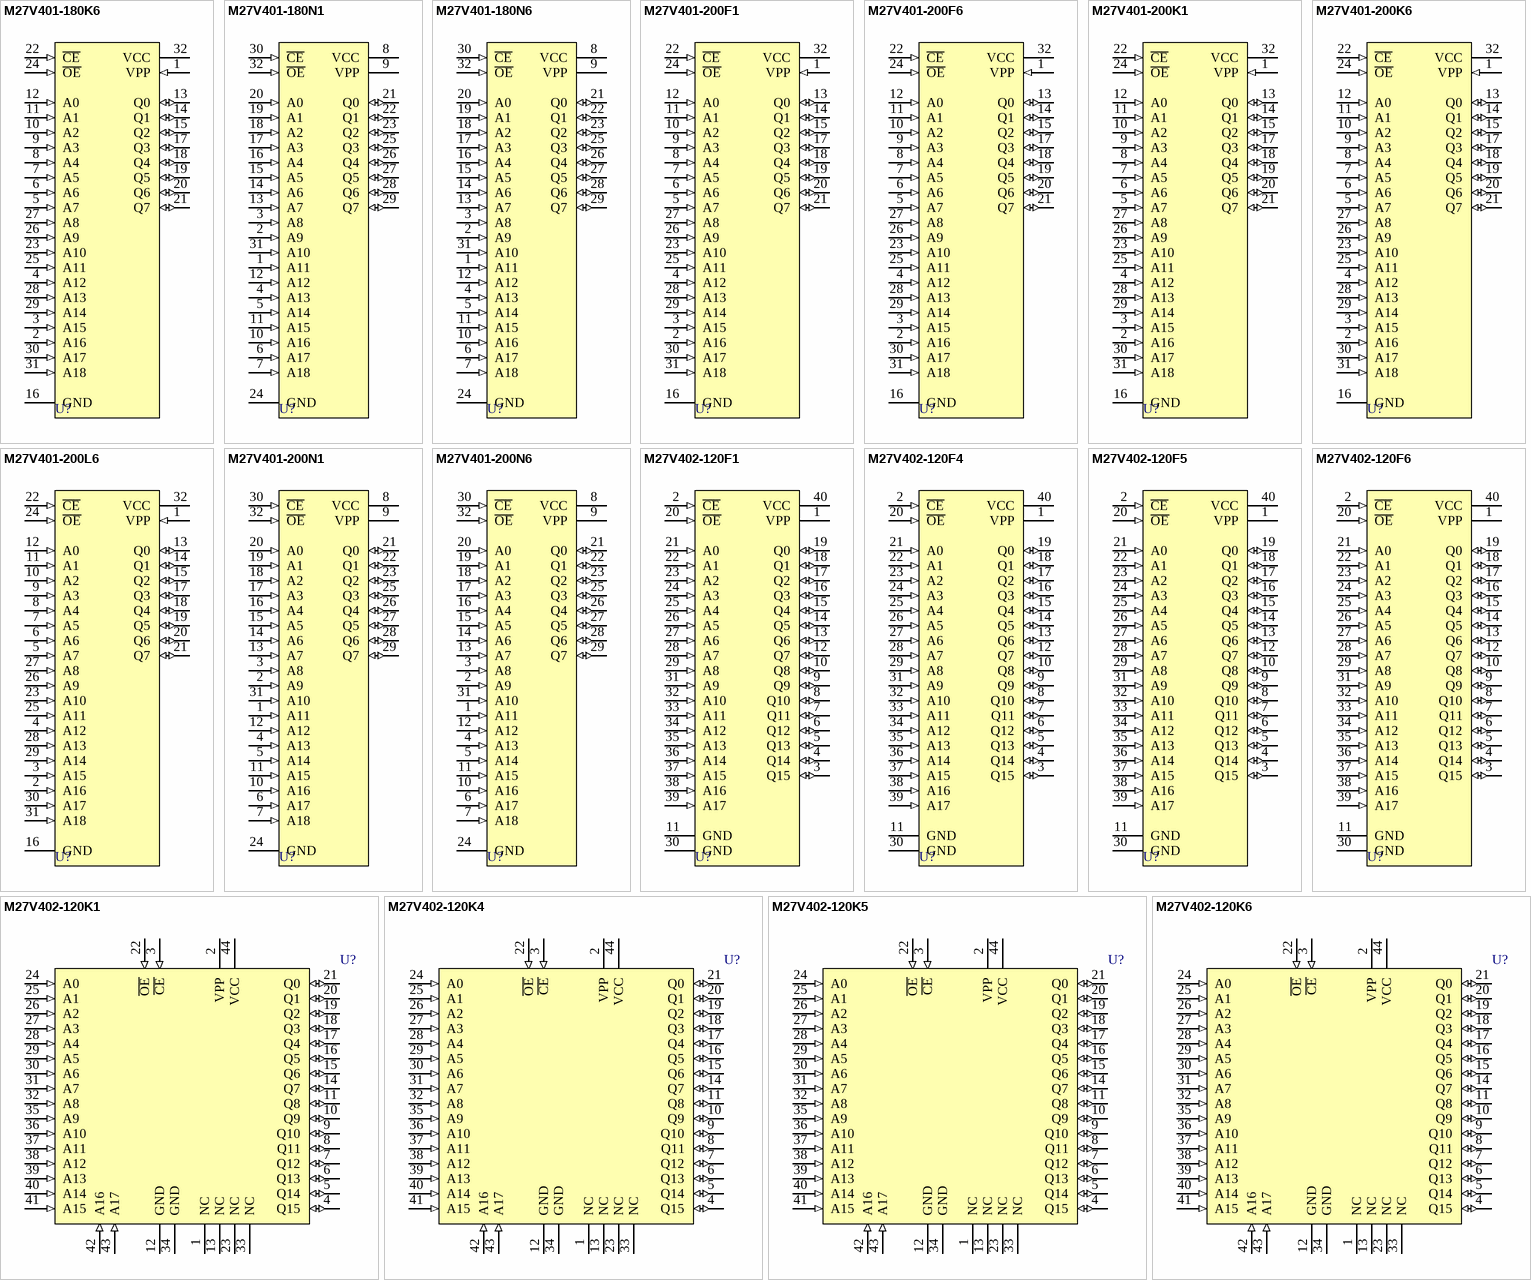
[diagram p52: symbols M27V401-180K6 to M27V402-120K6]

## M27V401-180K6
designator U?
4 Mbit (512Kb x 8) Low-Voltage UV EPROM and OTP EPROM; Published: 24-Aug-2001; LatestRevisionDate: 17-Jul-2002; LatestRevisionNote: Re-released for DXP Platform.; DatasheetDocument: May-1998; PackageDocument: Jun-1998; PackageReference: PLCC32; Publisher: Altium Limited; Code_JEDEC: MS-016-AE; Code_IPC: PLCC/R-32
footprint PLCC32 (Leaded Chip Carrier; 32 Leads; Body 11.4 x 14 mm)
pins: 1 VPP (in), 2 A16 (in), 3 A15 (in), 4 A12 (in), 5 A7 (in), 6 A6 (in), 7 A5 (in), 8 A4 (in), 9 A3 (in), 10 A2 (in), 11 A1 (in), 12 A0 (in), 13 Q0 (io), 14 Q1 (io), 15 Q2 (io), 16 GND (power), 17 Q3 (io), 18 Q4 (io), 19 Q5 (io), 20 Q6 (io), 21 Q7 (io), 22 ~{CE} (in), 23 A10 (in), 24 ~{OE} (in), 25 A11 (in), 26 A9 (in), 27 A8 (in), 28 A13 (in), 29 A14 (in), 30 A17 (in), 31 A18 (in), 32 VCC (power)

## M27V401-180N1
designator U?
4 Mbit (512Kb x 8) Low-Voltage UV EPROM and OTP EPROM; Published: 24-Aug-2001; LatestRevisionDate: 26-May-2004; LatestRevisionNote: Row spacing of PCB Footprint reduced.; DatasheetDocument: May-1998; PackageDocument: Mar-1999; PackageReference: TSOP32; Publisher: Altium Limited; Code_JEDEC: MO-142-BD
footprint TSOP32 (Shrink Small Outline, Plastic, Thin; 32 Leads; Body Width 18.4 mm; Pitch 0.5 mm)
pins: 1 A11 (in), 2 A9 (in), 3 A8 (in), 4 A13 (in), 5 A14 (in), 6 A17 (in), 7 A18 (in), 8 VCC (power), 9 VPP (power), 10 A16 (in), 11 A15 (in), 12 A12 (in), 13 A7 (in), 14 A6 (in), 15 A5 (in), 16 A4 (in), 17 A3 (in), 18 A2 (in), 19 A1 (in), 20 A0 (in), 21 Q0 (io), 22 Q1 (io), 23 Q2 (io), 24 GND (power), 25 Q3 (io), 26 Q4 (io), 27 Q5 (io), 28 Q6 (io), 29 Q7 (io), 30 ~{CE} (in), 31 A10 (in), 32 ~{OE} (in)

## M27V401-180N6
designator U?
4 Mbit (512Kb x 8) Low-Voltage UV EPROM and OTP EPROM; Published: 24-Aug-2001; LatestRevisionDate: 26-May-2004; LatestRevisionNote: Row spacing of PCB Footprint reduced.; DatasheetDocument: May-1998; PackageDocument: Mar-1999; PackageReference: TSOP32; Publisher: Altium Limited; Code_JEDEC: MO-142-BD
footprint TSOP32 (Shrink Small Outline, Plastic, Thin; 32 Leads; Body Width 18.4 mm; Pitch 0.5 mm)
pins: 1 A11 (in), 2 A9 (in), 3 A8 (in), 4 A13 (in), 5 A14 (in), 6 A17 (in), 7 A18 (in), 8 VCC (power), 9 VPP (power), 10 A16 (in), 11 A15 (in), 12 A12 (in), 13 A7 (in), 14 A6 (in), 15 A5 (in), 16 A4 (in), 17 A3 (in), 18 A2 (in), 19 A1 (in), 20 A0 (in), 21 Q0 (io), 22 Q1 (io), 23 Q2 (io), 24 GND (power), 25 Q3 (io), 26 Q4 (io), 27 Q5 (io), 28 Q6 (io), 29 Q7 (io), 30 ~{CE} (in), 31 A10 (in), 32 ~{OE} (in)

## M27V401-200F1
designator U?
4 Mbit (512Kb x 8) Low-Voltage UV EPROM and OTP EPROM; Published: 24-Aug-2001; LatestRevisionDate: 17-Jul-2002; LatestRevisionNote: Re-released for DXP Platform.; DatasheetDocument: May-1998; PackageReference: FDIP32W; Publisher: Altium Limited
footprint FDIP32W (Ceramic Frit-seal DIP, Window; 32 Leads; Row Spacing 15.24 mm; Pitch 2.54 mm)
pins: 1 VPP (in), 2 A16 (in), 3 A15 (in), 4 A12 (in), 5 A7 (in), 6 A6 (in), 7 A5 (in), 8 A4 (in), 9 A3 (in), 10 A2 (in), 11 A1 (in), 12 A0 (in), 13 Q0 (io), 14 Q1 (io), 15 Q2 (io), 16 GND (power), 17 Q3 (io), 18 Q4 (io), 19 Q5 (io), 20 Q6 (io), 21 Q7 (io), 22 ~{CE} (in), 23 A10 (in), 24 ~{OE} (in), 25 A11 (in), 26 A9 (in), 27 A8 (in), 28 A13 (in), 29 A14 (in), 30 A17 (in), 31 A18 (in), 32 VCC (power)

## M27V401-200F6
designator U?
4 Mbit (512Kb x 8) Low-Voltage UV EPROM and OTP EPROM; Published: 24-Aug-2001; LatestRevisionDate: 17-Jul-2002; LatestRevisionNote: Re-released for DXP Platform.; DatasheetDocument: May-1998; PackageReference: FDIP32W; Publisher: Altium Limited
footprint FDIP32W (Ceramic Frit-seal DIP, Window; 32 Leads; Row Spacing 15.24 mm; Pitch 2.54 mm)
pins: 1 VPP (in), 2 A16 (in), 3 A15 (in), 4 A12 (in), 5 A7 (in), 6 A6 (in), 7 A5 (in), 8 A4 (in), 9 A3 (in), 10 A2 (in), 11 A1 (in), 12 A0 (in), 13 Q0 (io), 14 Q1 (io), 15 Q2 (io), 16 GND (power), 17 Q3 (io), 18 Q4 (io), 19 Q5 (io), 20 Q6 (io), 21 Q7 (io), 22 ~{CE} (in), 23 A10 (in), 24 ~{OE} (in), 25 A11 (in), 26 A9 (in), 27 A8 (in), 28 A13 (in), 29 A14 (in), 30 A17 (in), 31 A18 (in), 32 VCC (power)

## M27V401-200K1
designator U?
4 Mbit (512Kb x 8) Low-Voltage UV EPROM and OTP EPROM; Published: 24-Aug-2001; LatestRevisionDate: 17-Jul-2002; LatestRevisionNote: Re-released for DXP Platform.; DatasheetDocument: May-1998; PackageDocument: Jun-1998; PackageReference: PLCC32; Publisher: Altium Limited; Code_JEDEC: MS-016-AE; Code_IPC: PLCC/R-32
footprint PLCC32 (Leaded Chip Carrier; 32 Leads; Body 11.4 x 14 mm)
pins: 1 VPP (in), 2 A16 (in), 3 A15 (in), 4 A12 (in), 5 A7 (in), 6 A6 (in), 7 A5 (in), 8 A4 (in), 9 A3 (in), 10 A2 (in), 11 A1 (in), 12 A0 (in), 13 Q0 (io), 14 Q1 (io), 15 Q2 (io), 16 GND (power), 17 Q3 (io), 18 Q4 (io), 19 Q5 (io), 20 Q6 (io), 21 Q7 (io), 22 ~{CE} (in), 23 A10 (in), 24 ~{OE} (in), 25 A11 (in), 26 A9 (in), 27 A8 (in), 28 A13 (in), 29 A14 (in), 30 A17 (in), 31 A18 (in), 32 VCC (power)

## M27V401-200K6
designator U?
4 Mbit (512Kb x 8) Low-Voltage UV EPROM and OTP EPROM; Published: 24-Aug-2001; LatestRevisionDate: 17-Jul-2002; LatestRevisionNote: Re-released for DXP Platform.; DatasheetDocument: May-1998; PackageDocument: Jun-1998; PackageReference: PLCC32; Publisher: Altium Limited; Code_JEDEC: MS-016-AE; Code_IPC: PLCC/R-32
footprint PLCC32 (Leaded Chip Carrier; 32 Leads; Body 11.4 x 14 mm)
pins: 1 VPP (in), 2 A16 (in), 3 A15 (in), 4 A12 (in), 5 A7 (in), 6 A6 (in), 7 A5 (in), 8 A4 (in), 9 A3 (in), 10 A2 (in), 11 A1 (in), 12 A0 (in), 13 Q0 (io), 14 Q1 (io), 15 Q2 (io), 16 GND (power), 17 Q3 (io), 18 Q4 (io), 19 Q5 (io), 20 Q6 (io), 21 Q7 (io), 22 ~{CE} (in), 23 A10 (in), 24 ~{OE} (in), 25 A11 (in), 26 A9 (in), 27 A8 (in), 28 A13 (in), 29 A14 (in), 30 A17 (in), 31 A18 (in), 32 VCC (power)

## M27V401-200L6
designator U?
4 Mbit (512Kb x 8) Low-Voltage UV EPROM and OTP EPROM; Published: 24-Aug-2001; LatestRevisionDate: 17-Jul-2002; LatestRevisionNote: Re-released for DXP Platform.; DatasheetDocument: Mar-1998; PackageReference: LCCC32W; Publisher: Altium Limited
footprint LCCC32W (Leadless Chip Carrier, Ceramic, Window; 32 Terminals; Body 11.4 x 14 mm)
pins: 1 VPP (in), 2 A16 (in), 3 A15 (in), 4 A12 (in), 5 A7 (in), 6 A6 (in), 7 A5 (in), 8 A4 (in), 9 A3 (in), 10 A2 (in), 11 A1 (in), 12 A0 (in), 13 Q0 (io), 14 Q1 (io), 15 Q2 (io), 16 GND (power), 17 Q3 (io), 18 Q4 (io), 19 Q5 (io), 20 Q6 (io), 21 Q7 (io), 22 ~{CE} (in), 23 A10 (in), 24 ~{OE} (in), 25 A11 (in), 26 A9 (in), 27 A8 (in), 28 A13 (in), 29 A14 (in), 30 A17 (in), 31 A18 (in), 32 VCC (power)

## M27V401-200N1
designator U?
4 Mbit (512Kb x 8) Low-Voltage UV EPROM and OTP EPROM; Published: 24-Aug-2001; LatestRevisionDate: 26-May-2004; LatestRevisionNote: Row spacing of PCB Footprint reduced.; DatasheetDocument: May-1998; PackageDocument: Mar-1999; PackageReference: TSOP32; Publisher: Altium Limited; Code_JEDEC: MO-142-BD
footprint TSOP32 (Shrink Small Outline, Plastic, Thin; 32 Leads; Body Width 18.4 mm; Pitch 0.5 mm)
pins: 1 A11 (in), 2 A9 (in), 3 A8 (in), 4 A13 (in), 5 A14 (in), 6 A17 (in), 7 A18 (in), 8 VCC (power), 9 VPP (power), 10 A16 (in), 11 A15 (in), 12 A12 (in), 13 A7 (in), 14 A6 (in), 15 A5 (in), 16 A4 (in), 17 A3 (in), 18 A2 (in), 19 A1 (in), 20 A0 (in), 21 Q0 (io), 22 Q1 (io), 23 Q2 (io), 24 GND (power), 25 Q3 (io), 26 Q4 (io), 27 Q5 (io), 28 Q6 (io), 29 Q7 (io), 30 ~{CE} (in), 31 A10 (in), 32 ~{OE} (in)

## M27V401-200N6
designator U?
4 Mbit (512Kb x 8) Low-Voltage UV EPROM and OTP EPROM; Published: 24-Aug-2001; LatestRevisionDate: 26-May-2004; LatestRevisionNote: Row spacing of PCB Footprint reduced.; DatasheetDocument: May-1998; PackageDocument: Mar-1999; PackageReference: TSOP32; Publisher: Altium Limited; Code_JEDEC: MO-142-BD
footprint TSOP32 (Shrink Small Outline, Plastic, Thin; 32 Leads; Body Width 18.4 mm; Pitch 0.5 mm)
pins: 1 A11 (in), 2 A9 (in), 3 A8 (in), 4 A13 (in), 5 A14 (in), 6 A17 (in), 7 A18 (in), 8 VCC (power), 9 VPP (power), 10 A16 (in), 11 A15 (in), 12 A12 (in), 13 A7 (in), 14 A6 (in), 15 A5 (in), 16 A4 (in), 17 A3 (in), 18 A2 (in), 19 A1 (in), 20 A0 (in), 21 Q0 (io), 22 Q1 (io), 23 Q2 (io), 24 GND (power), 25 Q3 (io), 26 Q4 (io), 27 Q5 (io), 28 Q6 (io), 29 Q7 (io), 30 ~{CE} (in), 31 A10 (in), 32 ~{OE} (in)

## M27V402-120F1
designator U?
4 Mbit (512Kb x 8) Low-Voltage UV EPROM and OTP EPROM; Published: 24-Aug-2001; LatestRevisionDate: 17-Jul-2002; LatestRevisionNote: Re-released for DXP Platform.; DatasheetDocument: May-1998; PackageReference: FDIP40W; Publisher: Altium Limited
footprint FDIP40W (Ceramic Frit-seal DIP, Window; 40 Leads; Row Spacing 15.24 mm; Pitch 2.54 mm)
pins: 1 VPP (power), 2 ~{CE} (in), 3 Q15 (io), 4 Q14 (io), 5 Q13 (io), 6 Q12 (io), 7 Q11 (io), 8 Q10 (io), 9 Q9 (io), 10 Q8 (io), 11 GND (power), 12 Q7 (io), 13 Q6 (io), 14 Q5 (io), 15 Q4 (io), 16 Q3 (io), 17 Q2 (io), 18 Q1 (io), 19 Q0 (io), 20 ~{OE} (in), 21 A0 (in), 22 A1 (in), 23 A2 (in), 24 A3 (in), 25 A4 (in), 26 A5 (in), 27 A6 (in), 28 A7 (in), 29 A8 (in), 30 GND (power), 31 A9 (in), 32 A10 (in), 33 A11 (in), 34 A12 (in), 35 A13 (in), 36 A14 (in), 37 A15 (in), 38 A16 (in), 39 A17 (in), 40 VCC (power)

## M27V402-120F4
designator U?
4 Mbit (512Kb x 8) Low-Voltage UV EPROM and OTP EPROM; Published: 24-Aug-2001; LatestRevisionDate: 17-Jul-2002; LatestRevisionNote: Re-released for DXP Platform.; DatasheetDocument: May-1998; PackageReference: FDIP40W; Publisher: Altium Limited
footprint FDIP40W (Ceramic Frit-seal DIP, Window; 40 Leads; Row Spacing 15.24 mm; Pitch 2.54 mm)
pins: 1 VPP (power), 2 ~{CE} (in), 3 Q15 (io), 4 Q14 (io), 5 Q13 (io), 6 Q12 (io), 7 Q11 (io), 8 Q10 (io), 9 Q9 (io), 10 Q8 (io), 11 GND (power), 12 Q7 (io), 13 Q6 (io), 14 Q5 (io), 15 Q4 (io), 16 Q3 (io), 17 Q2 (io), 18 Q1 (io), 19 Q0 (io), 20 ~{OE} (in), 21 A0 (in), 22 A1 (in), 23 A2 (in), 24 A3 (in), 25 A4 (in), 26 A5 (in), 27 A6 (in), 28 A7 (in), 29 A8 (in), 30 GND (power), 31 A9 (in), 32 A10 (in), 33 A11 (in), 34 A12 (in), 35 A13 (in), 36 A14 (in), 37 A15 (in), 38 A16 (in), 39 A17 (in), 40 VCC (power)

## M27V402-120F5
designator U?
4 Mbit (512Kb x 8) Low-Voltage UV EPROM and OTP EPROM; Published: 24-Aug-2001; LatestRevisionDate: 17-Jul-2002; LatestRevisionNote: Re-released for DXP Platform.; DatasheetDocument: May-1998; PackageReference: FDIP40W; Publisher: Altium Limited
footprint FDIP40W (Ceramic Frit-seal DIP, Window; 40 Leads; Row Spacing 15.24 mm; Pitch 2.54 mm)
pins: 1 VPP (power), 2 ~{CE} (in), 3 Q15 (io), 4 Q14 (io), 5 Q13 (io), 6 Q12 (io), 7 Q11 (io), 8 Q10 (io), 9 Q9 (io), 10 Q8 (io), 11 GND (power), 12 Q7 (io), 13 Q6 (io), 14 Q5 (io), 15 Q4 (io), 16 Q3 (io), 17 Q2 (io), 18 Q1 (io), 19 Q0 (io), 20 ~{OE} (in), 21 A0 (in), 22 A1 (in), 23 A2 (in), 24 A3 (in), 25 A4 (in), 26 A5 (in), 27 A6 (in), 28 A7 (in), 29 A8 (in), 30 GND (power), 31 A9 (in), 32 A10 (in), 33 A11 (in), 34 A12 (in), 35 A13 (in), 36 A14 (in), 37 A15 (in), 38 A16 (in), 39 A17 (in), 40 VCC (power)

## M27V402-120F6
designator U?
4 Mbit (512Kb x 8) Low-Voltage UV EPROM and OTP EPROM; Published: 24-Aug-2001; LatestRevisionDate: 17-Jul-2002; LatestRevisionNote: Re-released for DXP Platform.; DatasheetDocument: May-1998; PackageReference: FDIP40W; Publisher: Altium Limited
footprint FDIP40W (Ceramic Frit-seal DIP, Window; 40 Leads; Row Spacing 15.24 mm; Pitch 2.54 mm)
pins: 1 VPP (power), 2 ~{CE} (in), 3 Q15 (io), 4 Q14 (io), 5 Q13 (io), 6 Q12 (io), 7 Q11 (io), 8 Q10 (io), 9 Q9 (io), 10 Q8 (io), 11 GND (power), 12 Q7 (io), 13 Q6 (io), 14 Q5 (io), 15 Q4 (io), 16 Q3 (io), 17 Q2 (io), 18 Q1 (io), 19 Q0 (io), 20 ~{OE} (in), 21 A0 (in), 22 A1 (in), 23 A2 (in), 24 A3 (in), 25 A4 (in), 26 A5 (in), 27 A6 (in), 28 A7 (in), 29 A8 (in), 30 GND (power), 31 A9 (in), 32 A10 (in), 33 A11 (in), 34 A12 (in), 35 A13 (in), 36 A14 (in), 37 A15 (in), 38 A16 (in), 39 A17 (in), 40 VCC (power)

## M27V402-120K1
designator U?
4 Mbit (512Kb x 8) Low-Voltage UV EPROM and OTP EPROM; Published: 24-Aug-2001; LatestRevisionDate: 17-Jul-2002; LatestRevisionNote: Re-released for DXP Platform.; DatasheetDocument: May-1998; PackageDocument: Jun-1998; PackageReference: PLCC44; Publisher: Altium Limited; Code_IPC: PLCC-44
footprint PLCC44 (Leaded Chip Carrier; 44 Leads; Body 16.5 x 16.5 mm)
pins: 1 NC, 2 VPP (power), 3 ~{CE} (in), 4 Q15 (io), 5 Q14 (io), 6 Q13 (io), 7 Q12 (io), 8 Q11 (io), 9 Q10 (io), 10 Q9 (io), 11 Q8 (io), 12 GND (power), 13 NC, 14 Q7 (io), 15 Q6 (io), 16 Q5 (io), 17 Q4 (io), 18 Q3 (io), 19 Q2 (io), 20 Q1 (io), 21 Q0 (io), 22 ~{OE} (in), 23 NC, 24 A0 (in), 25 A1 (in), 26 A2 (in), 27 A3 (in), 28 A4 (in), 29 A5 (in), 30 A6 (in), 31 A7 (in), 32 A8 (in), 33 NC, 34 GND (power), 35 A9 (in), 36 A10 (in), 37 A11 (in), 38 A12 (in), 39 A13 (in), 40 A14 (in), 41 A15 (in), 42 A16 (in), 43 A17 (in), 44 VCC (power)

## M27V402-120K4
designator U?
4 Mbit (512Kb x 8) Low-Voltage UV EPROM and OTP EPROM; Published: 24-Aug-2001; LatestRevisionDate: 17-Jul-2002; LatestRevisionNote: Re-released for DXP Platform.; DatasheetDocument: May-1998; PackageDocument: Jun-1998; PackageReference: PLCC44; Publisher: Altium Limited; Code_IPC: PLCC-44
footprint PLCC44 (Leaded Chip Carrier; 44 Leads; Body 16.5 x 16.5 mm)
pins: 1 NC, 2 VPP (power), 3 ~{CE} (in), 4 Q15 (io), 5 Q14 (io), 6 Q13 (io), 7 Q12 (io), 8 Q11 (io), 9 Q10 (io), 10 Q9 (io), 11 Q8 (io), 12 GND (power), 13 NC, 14 Q7 (io), 15 Q6 (io), 16 Q5 (io), 17 Q4 (io), 18 Q3 (io), 19 Q2 (io), 20 Q1 (io), 21 Q0 (io), 22 ~{OE} (in), 23 NC, 24 A0 (in), 25 A1 (in), 26 A2 (in), 27 A3 (in), 28 A4 (in), 29 A5 (in), 30 A6 (in), 31 A7 (in), 32 A8 (in), 33 NC, 34 GND (power), 35 A9 (in), 36 A10 (in), 37 A11 (in), 38 A12 (in), 39 A13 (in), 40 A14 (in), 41 A15 (in), 42 A16 (in), 43 A17 (in), 44 VCC (power)

## M27V402-120K5
designator U?
4 Mbit (512Kb x 8) Low-Voltage UV EPROM and OTP EPROM; Published: 24-Aug-2001; LatestRevisionDate: 17-Jul-2002; LatestRevisionNote: Re-released for DXP Platform.; DatasheetDocument: May-1998; PackageDocument: Jun-1998; PackageReference: PLCC44; Publisher: Altium Limited; Code_IPC: PLCC-44
footprint PLCC44 (Leaded Chip Carrier; 44 Leads; Body 16.5 x 16.5 mm)
pins: 1 NC, 2 VPP (power), 3 ~{CE} (in), 4 Q15 (io), 5 Q14 (io), 6 Q13 (io), 7 Q12 (io), 8 Q11 (io), 9 Q10 (io), 10 Q9 (io), 11 Q8 (io), 12 GND (power), 13 NC, 14 Q7 (io), 15 Q6 (io), 16 Q5 (io), 17 Q4 (io), 18 Q3 (io), 19 Q2 (io), 20 Q1 (io), 21 Q0 (io), 22 ~{OE} (in), 23 NC, 24 A0 (in), 25 A1 (in), 26 A2 (in), 27 A3 (in), 28 A4 (in), 29 A5 (in), 30 A6 (in), 31 A7 (in), 32 A8 (in), 33 NC, 34 GND (power), 35 A9 (in), 36 A10 (in), 37 A11 (in), 38 A12 (in), 39 A13 (in), 40 A14 (in), 41 A15 (in), 42 A16 (in), 43 A17 (in), 44 VCC (power)

## M27V402-120K6
designator U?
4 Mbit (512Kb x 8) Low-Voltage UV EPROM and OTP EPROM; Published: 24-Aug-2001; LatestRevisionDate: 17-Jul-2002; LatestRevisionNote: Re-released for DXP Platform.; DatasheetDocument: May-1998; PackageDocument: Jun-1998; PackageReference: PLCC44; Publisher: Altium Limited; Code_IPC: PLCC-44
footprint PLCC44 (Leaded Chip Carrier; 44 Leads; Body 16.5 x 16.5 mm)
pins: 1 NC, 2 VPP (power), 3 ~{CE} (in), 4 Q15 (io), 5 Q14 (io), 6 Q13 (io), 7 Q12 (io), 8 Q11 (io), 9 Q10 (io), 10 Q9 (io), 11 Q8 (io), 12 GND (power), 13 NC, 14 Q7 (io), 15 Q6 (io), 16 Q5 (io), 17 Q4 (io), 18 Q3 (io), 19 Q2 (io), 20 Q1 (io), 21 Q0 (io), 22 ~{OE} (in), 23 NC, 24 A0 (in), 25 A1 (in), 26 A2 (in), 27 A3 (in), 28 A4 (in), 29 A5 (in), 30 A6 (in), 31 A7 (in), 32 A8 (in), 33 NC, 34 GND (power), 35 A9 (in), 36 A10 (in), 37 A11 (in), 38 A12 (in), 39 A13 (in), 40 A14 (in), 41 A15 (in), 42 A16 (in), 43 A17 (in), 44 VCC (power)

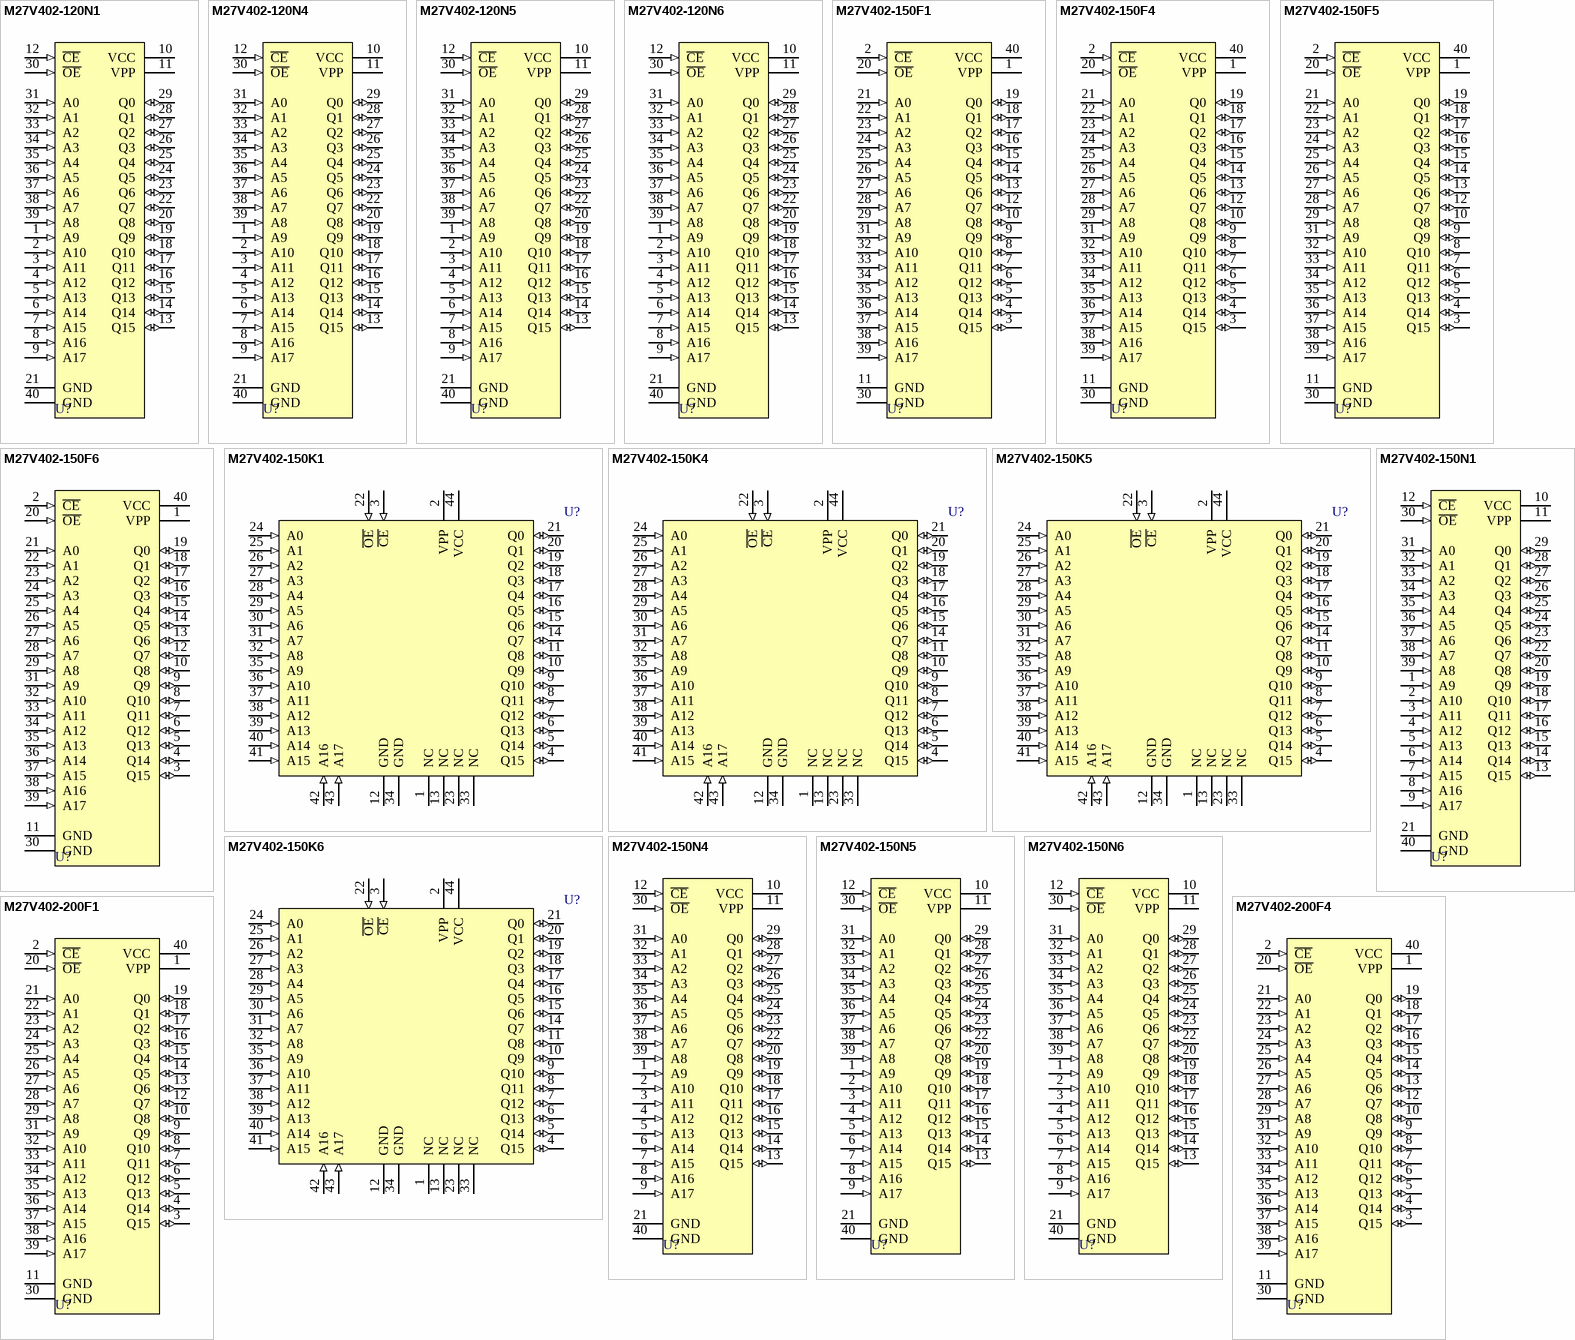
[diagram p53: symbols M27V402-120N1 to M27V402-200F4]

## M27V402-120N1
designator U?
4 Mbit (512Kb x 8) Low-Voltage UV EPROM and OTP EPROM; Published: 24-Aug-2001; LatestRevisionDate: 17-Jul-2002; LatestRevisionNote: Re-released for DXP Platform.; DatasheetDocument: May-1998; PackageDocument: Jul-1998; PackageReference: TSOP40A; Publisher: Altium Limited; Code_JEDEC: MO-142-CD
footprint TSOP40A (Shrink Small Outline, Plastic, Thin; 40 Leads; Body Width 18.4 mm; Pitch 0.5 mm)
pins: 1 A9 (in), 2 A10 (in), 3 A11 (in), 4 A12 (in), 5 A13 (in), 6 A14 (in), 7 A15 (in), 8 A16 (in), 9 A17 (in), 10 VCC (power), 11 VPP (power), 12 ~{CE} (in), 13 Q15 (io), 14 Q14 (io), 15 Q13 (io), 16 Q12 (io), 17 Q11 (io), 18 Q10 (io), 19 Q9 (io), 20 Q8 (io), 21 GND (power), 22 Q7 (io), 23 Q6 (io), 24 Q5 (io), 25 Q4 (io), 26 Q3 (io), 27 Q2 (io), 28 Q1 (io), 29 Q0 (io), 30 ~{OE} (in), 31 A0 (in), 32 A1 (in), 33 A2 (in), 34 A3 (in), 35 A4 (in), 36 A5 (in), 37 A6 (in), 38 A7 (in), 39 A8 (in), 40 GND (power)

## M27V402-120N4
designator U?
4 Mbit (512Kb x 8) Low-Voltage UV EPROM and OTP EPROM; Published: 24-Aug-2001; LatestRevisionDate: 17-Jul-2002; LatestRevisionNote: Re-released for DXP Platform.; DatasheetDocument: May-1998; PackageDocument: Jul-1998; PackageReference: TSOP40A; Publisher: Altium Limited; Code_JEDEC: MO-142-CD
footprint TSOP40A (Shrink Small Outline, Plastic, Thin; 40 Leads; Body Width 18.4 mm; Pitch 0.5 mm)
pins: 1 A9 (in), 2 A10 (in), 3 A11 (in), 4 A12 (in), 5 A13 (in), 6 A14 (in), 7 A15 (in), 8 A16 (in), 9 A17 (in), 10 VCC (power), 11 VPP (power), 12 ~{CE} (in), 13 Q15 (io), 14 Q14 (io), 15 Q13 (io), 16 Q12 (io), 17 Q11 (io), 18 Q10 (io), 19 Q9 (io), 20 Q8 (io), 21 GND (power), 22 Q7 (io), 23 Q6 (io), 24 Q5 (io), 25 Q4 (io), 26 Q3 (io), 27 Q2 (io), 28 Q1 (io), 29 Q0 (io), 30 ~{OE} (in), 31 A0 (in), 32 A1 (in), 33 A2 (in), 34 A3 (in), 35 A4 (in), 36 A5 (in), 37 A6 (in), 38 A7 (in), 39 A8 (in), 40 GND (power)

## M27V402-120N5
designator U?
4 Mbit (512Kb x 8) Low-Voltage UV EPROM and OTP EPROM; Published: 24-Aug-2001; LatestRevisionDate: 17-Jul-2002; LatestRevisionNote: Re-released for DXP Platform.; DatasheetDocument: May-1998; PackageDocument: Jul-1998; PackageReference: TSOP40A; Publisher: Altium Limited; Code_JEDEC: MO-142-CD
footprint TSOP40A (Shrink Small Outline, Plastic, Thin; 40 Leads; Body Width 18.4 mm; Pitch 0.5 mm)
pins: 1 A9 (in), 2 A10 (in), 3 A11 (in), 4 A12 (in), 5 A13 (in), 6 A14 (in), 7 A15 (in), 8 A16 (in), 9 A17 (in), 10 VCC (power), 11 VPP (power), 12 ~{CE} (in), 13 Q15 (io), 14 Q14 (io), 15 Q13 (io), 16 Q12 (io), 17 Q11 (io), 18 Q10 (io), 19 Q9 (io), 20 Q8 (io), 21 GND (power), 22 Q7 (io), 23 Q6 (io), 24 Q5 (io), 25 Q4 (io), 26 Q3 (io), 27 Q2 (io), 28 Q1 (io), 29 Q0 (io), 30 ~{OE} (in), 31 A0 (in), 32 A1 (in), 33 A2 (in), 34 A3 (in), 35 A4 (in), 36 A5 (in), 37 A6 (in), 38 A7 (in), 39 A8 (in), 40 GND (power)

## M27V402-120N6
designator U?
4 Mbit (512Kb x 8) Low-Voltage UV EPROM and OTP EPROM; Published: 24-Aug-2001; LatestRevisionDate: 17-Jul-2002; LatestRevisionNote: Re-released for DXP Platform.; DatasheetDocument: May-1998; PackageDocument: Jul-1998; PackageReference: TSOP40A; Publisher: Altium Limited; Code_JEDEC: MO-142-CD
footprint TSOP40A (Shrink Small Outline, Plastic, Thin; 40 Leads; Body Width 18.4 mm; Pitch 0.5 mm)
pins: 1 A9 (in), 2 A10 (in), 3 A11 (in), 4 A12 (in), 5 A13 (in), 6 A14 (in), 7 A15 (in), 8 A16 (in), 9 A17 (in), 10 VCC (power), 11 VPP (power), 12 ~{CE} (in), 13 Q15 (io), 14 Q14 (io), 15 Q13 (io), 16 Q12 (io), 17 Q11 (io), 18 Q10 (io), 19 Q9 (io), 20 Q8 (io), 21 GND (power), 22 Q7 (io), 23 Q6 (io), 24 Q5 (io), 25 Q4 (io), 26 Q3 (io), 27 Q2 (io), 28 Q1 (io), 29 Q0 (io), 30 ~{OE} (in), 31 A0 (in), 32 A1 (in), 33 A2 (in), 34 A3 (in), 35 A4 (in), 36 A5 (in), 37 A6 (in), 38 A7 (in), 39 A8 (in), 40 GND (power)

## M27V402-150F1
designator U?
4 Mbit (512Kb x 8) Low-Voltage UV EPROM and OTP EPROM; Published: 24-Aug-2001; LatestRevisionDate: 17-Jul-2002; LatestRevisionNote: Re-released for DXP Platform.; DatasheetDocument: May-1998; PackageReference: FDIP40W; Publisher: Altium Limited
footprint FDIP40W (Ceramic Frit-seal DIP, Window; 40 Leads; Row Spacing 15.24 mm; Pitch 2.54 mm)
pins: 1 VPP (power), 2 ~{CE} (in), 3 Q15 (io), 4 Q14 (io), 5 Q13 (io), 6 Q12 (io), 7 Q11 (io), 8 Q10 (io), 9 Q9 (io), 10 Q8 (io), 11 GND (power), 12 Q7 (io), 13 Q6 (io), 14 Q5 (io), 15 Q4 (io), 16 Q3 (io), 17 Q2 (io), 18 Q1 (io), 19 Q0 (io), 20 ~{OE} (in), 21 A0 (in), 22 A1 (in), 23 A2 (in), 24 A3 (in), 25 A4 (in), 26 A5 (in), 27 A6 (in), 28 A7 (in), 29 A8 (in), 30 GND (power), 31 A9 (in), 32 A10 (in), 33 A11 (in), 34 A12 (in), 35 A13 (in), 36 A14 (in), 37 A15 (in), 38 A16 (in), 39 A17 (in), 40 VCC (power)

## M27V402-150F4
designator U?
4 Mbit (512Kb x 8) Low-Voltage UV EPROM and OTP EPROM; Published: 24-Aug-2001; LatestRevisionDate: 17-Jul-2002; LatestRevisionNote: Re-released for DXP Platform.; DatasheetDocument: May-1998; PackageReference: FDIP40W; Publisher: Altium Limited
footprint FDIP40W (Ceramic Frit-seal DIP, Window; 40 Leads; Row Spacing 15.24 mm; Pitch 2.54 mm)
pins: 1 VPP (power), 2 ~{CE} (in), 3 Q15 (io), 4 Q14 (io), 5 Q13 (io), 6 Q12 (io), 7 Q11 (io), 8 Q10 (io), 9 Q9 (io), 10 Q8 (io), 11 GND (power), 12 Q7 (io), 13 Q6 (io), 14 Q5 (io), 15 Q4 (io), 16 Q3 (io), 17 Q2 (io), 18 Q1 (io), 19 Q0 (io), 20 ~{OE} (in), 21 A0 (in), 22 A1 (in), 23 A2 (in), 24 A3 (in), 25 A4 (in), 26 A5 (in), 27 A6 (in), 28 A7 (in), 29 A8 (in), 30 GND (power), 31 A9 (in), 32 A10 (in), 33 A11 (in), 34 A12 (in), 35 A13 (in), 36 A14 (in), 37 A15 (in), 38 A16 (in), 39 A17 (in), 40 VCC (power)

## M27V402-150F5
designator U?
4 Mbit (512Kb x 8) Low-Voltage UV EPROM and OTP EPROM; Published: 24-Aug-2001; LatestRevisionDate: 17-Jul-2002; LatestRevisionNote: Re-released for DXP Platform.; DatasheetDocument: May-1998; PackageReference: FDIP40W; Publisher: Altium Limited
footprint FDIP40W (Ceramic Frit-seal DIP, Window; 40 Leads; Row Spacing 15.24 mm; Pitch 2.54 mm)
pins: 1 VPP (power), 2 ~{CE} (in), 3 Q15 (io), 4 Q14 (io), 5 Q13 (io), 6 Q12 (io), 7 Q11 (io), 8 Q10 (io), 9 Q9 (io), 10 Q8 (io), 11 GND (power), 12 Q7 (io), 13 Q6 (io), 14 Q5 (io), 15 Q4 (io), 16 Q3 (io), 17 Q2 (io), 18 Q1 (io), 19 Q0 (io), 20 ~{OE} (in), 21 A0 (in), 22 A1 (in), 23 A2 (in), 24 A3 (in), 25 A4 (in), 26 A5 (in), 27 A6 (in), 28 A7 (in), 29 A8 (in), 30 GND (power), 31 A9 (in), 32 A10 (in), 33 A11 (in), 34 A12 (in), 35 A13 (in), 36 A14 (in), 37 A15 (in), 38 A16 (in), 39 A17 (in), 40 VCC (power)

## M27V402-150F6
designator U?
4 Mbit (512Kb x 8) Low-Voltage UV EPROM and OTP EPROM; Published: 24-Aug-2001; LatestRevisionDate: 17-Jul-2002; LatestRevisionNote: Re-released for DXP Platform.; DatasheetDocument: May-1998; PackageReference: FDIP40W; Publisher: Altium Limited
footprint FDIP40W (Ceramic Frit-seal DIP, Window; 40 Leads; Row Spacing 15.24 mm; Pitch 2.54 mm)
pins: 1 VPP (power), 2 ~{CE} (in), 3 Q15 (io), 4 Q14 (io), 5 Q13 (io), 6 Q12 (io), 7 Q11 (io), 8 Q10 (io), 9 Q9 (io), 10 Q8 (io), 11 GND (power), 12 Q7 (io), 13 Q6 (io), 14 Q5 (io), 15 Q4 (io), 16 Q3 (io), 17 Q2 (io), 18 Q1 (io), 19 Q0 (io), 20 ~{OE} (in), 21 A0 (in), 22 A1 (in), 23 A2 (in), 24 A3 (in), 25 A4 (in), 26 A5 (in), 27 A6 (in), 28 A7 (in), 29 A8 (in), 30 GND (power), 31 A9 (in), 32 A10 (in), 33 A11 (in), 34 A12 (in), 35 A13 (in), 36 A14 (in), 37 A15 (in), 38 A16 (in), 39 A17 (in), 40 VCC (power)